# Altium schematic symbol library Devices.SCHLIB: 299 symbols
Pins are listed as number, name and electrical type; pins without a type are passive.

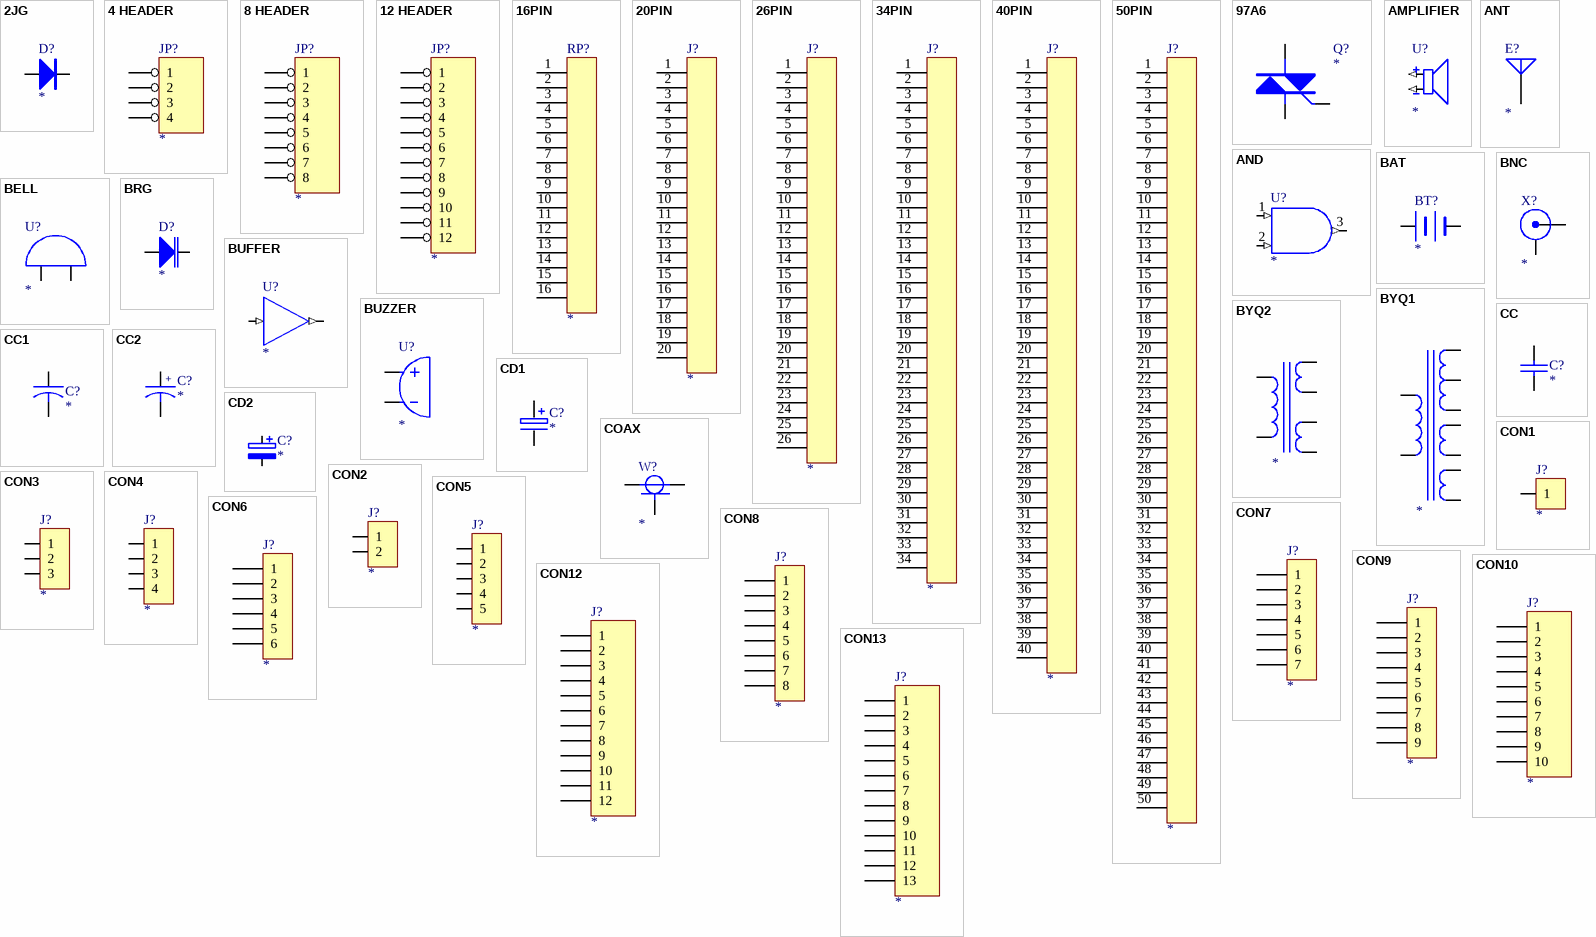
[diagram p0: symbols 2JG to CON13]

## 2JG
designator D?
Diode
footprint V3
footprint D3528
footprint V2
pins: 1 A, 2 K

## 4 HEADER
designator JP?
4 Pin Header
pins: 1, 2, 3, 4

## 8 HEADER
designator JP?
8 Pin Header
pins: 1, 2, 3, 4, 5, 6, 7, 8

## 12 HEADER
designator JP?
12 Pin Header
pins: 1, 2, 3, 4, 5, 6, 7, 8, 9, 10, 11, 12

## 16PIN
designator RP?
footprint IDC16
pins: 1, 2, 3, 4, 5, 6, 7, 8, 9, 10, 11, 12, 13, 14, 15, 16

## 20PIN
designator J?
footprint IDC20
pins: 1, 2, 3, 4, 5, 6, 7, 8, 9, 10, 11, 12, 13, 14, 15, 16, 17, 18, 19, 20

## 26PIN
designator J?
footprint IDC26
pins: 1, 2, 3, 4, 5, 6, 7, 8, 9, 10, 11, 12, 13, 14, 15, 16, 17, 18, 19, 20, 21, 22, 23, 24, 25, 26

## 34PIN
designator J?
footprint IDC34
pins: 1, 2, 3, 4, 5, 6, 7, 8, 9, 10, 11, 12, 13, 14, 15, 16, 17, 18, 19, 20, 21, 22, 23, 24, 25, 26, 27, 28, 29, 30, 31, 32, 33, 34

## 40PIN
designator J?
footprint IDC40
pins: 1, 2, 3, 4, 5, 6, 7, 8, 9, 10, 11, 12, 13, 14, 15, 16, 17, 18, 19, 20, 21, 22, 23, 24, 25, 26, 27, 28, 29, 30, 31, 32, 33, 34, 35, 36, 37, 38, 39, 40

## 50PIN
designator J?
footprint IDC50
pins: 1, 2, 3, 4, 5, 6, 7, 8, 9, 10, 11, 12, 13, 14, 15, 16, 17, 18, 19, 20, 21, 22, 23, 24, 25, 26, 27, 28, 29, 30, 31, 32, 33, 34, 35, 36, 37, 38, 39, 40, 41, 42, 43, 44, 45, 46, 47, 48, 49, 50

## 97A6
designator Q?
footprint BG3
footprint BD235
pins: 1 T, 2 G, 3 T

## AMPLIFIER
designator U?
pins: 1 IN+ (in), 2 IN- (in)

## AND
designator U?
AND Gate
pins: 1 A (in), 2 B (in), 3 Y (out)

## ANT
designator E?
Generic Antenna
pins: 1 A

## BAT
designator BT?
Battery
pins: 1 +, 2 -

## BELL
designator U?
Bell
pins: 1 A, 2 B

## BNC
designator X?
BNC Connector
footprint AV1
footprint AV2
footprint AV3
footprint AV4
pins: 1 X, 2 Y

## BRG
designator D?
Varactor Diode
footprint V3
pins: 1 A, 2 K

## BUFFER
designator U?
Buffer
pins: 1 A (in), 2 Y (out)

## BUZZER
designator U?
Buzzer
pins: 1 A, 2 B

## BYQ1
designator ?
pins: 1, 2, 3, 3, 3, 4, 5, 5, 5

## BYQ2
designator ?
pins: 1, 3, 3, 4, 5, 5

## CC
designator C?
Capacitor
footprint C0603
footprint C0805
footprint C1
footprint C2
pins: 1, 2

## CC1
designator C?
Capacitor
footprint C2
footprint C1
footprint C3
footprint C4
pins: 1, 2

## CC2
designator C?
Capacitor
footprint CD1
footprint CD2
footprint CD3
footprint CD2-4
pins: 1, 2
text: +

## CD1
designator C?
Electrolytic Capacitor; Text Field1: 4.7uF:4V-A;6.3V-A;10V-A;16V-BA;20V-BA;25V-CB;35V-DC;50V-D;; Text Field2: 10uF:4V-AB;6.3V-BA;10V-BA;16V-CBA;20V-CB;25V-DC;35V-D;; Text Field3: 22uF:4V-BA;6.3V-CBA;10V-CB;16V-DBC;20V-DC;25V-D;35V-D;; Text Field4: 33uF:4V-CAB;6.3V-CBA;10V-DBC;16V-DCB;20V-DC;25V-DE;; Text Field5: 47uF:4V-CBA;6.3V-DBC;10V-DBC;16V-DC;20V-DE;; Text Field6: 68uF:4V-DBC;6.3V-DCB;10V-DCB;16V-D;20V-DE;; Text Field7: 100uF:4V-DCB;6.3V-EDBC;10V-DC;16V-DE;20V-E;; Text Field8: 220uF:4V-EDC;6.3V-ED;10V-ED;
footprint CD1
footprint CD2
footprint CD2-4
footprint CD3
pins: 1, 2

## CD2
designator C?
Electrolytic Capacitor
footprint CD1
footprint CD2
footprint CD2-4
footprint CD3
pins: 1, 2

## COAX
designator W?
Coaxial
pins: 1 CENTER 1, 2 CENTER 2, 3 SHIELD

## CON1
designator J?
Connector
footprint SIP1
pins: 1

## CON2
designator J?
Connector
footprint SIP2
pins: 1, 2

## CON3
designator J?
Connector
footprint SIP3
pins: 1, 2, 3

## CON4
designator J?
Connector
footprint SIP4
pins: 1, 2, 3, 4

## CON5
designator J?
Connector
footprint SIP5
pins: 1, 2, 3, 4, 5

## CON6
designator J?
Connector
footprint SIP6
pins: 1, 2, 3, 4, 5, 6

## CON7
designator J?
Connector
footprint SIP7
pins: 1, 2, 3, 4, 5, 6, 7

## CON8
designator J?
Connector
footprint SIP8
pins: 1, 2, 3, 4, 5, 6, 7, 8

## CON9
designator J?
Connector
footprint SIP9
pins: 1, 2, 3, 4, 5, 6, 7, 8, 9

## CON10
designator J?
Connector
footprint SIP10
pins: 1, 2, 3, 4, 5, 6, 7, 8, 9, 10

## CON12
designator J?
Connector
pins: 1, 2, 3, 4, 5, 6, 7, 8, 9, 10, 11, 12

## CON13
designator J?
Connector
pins: 1, 2, 3, 4, 5, 6, 7, 8, 9, 10, 11, 12, 13

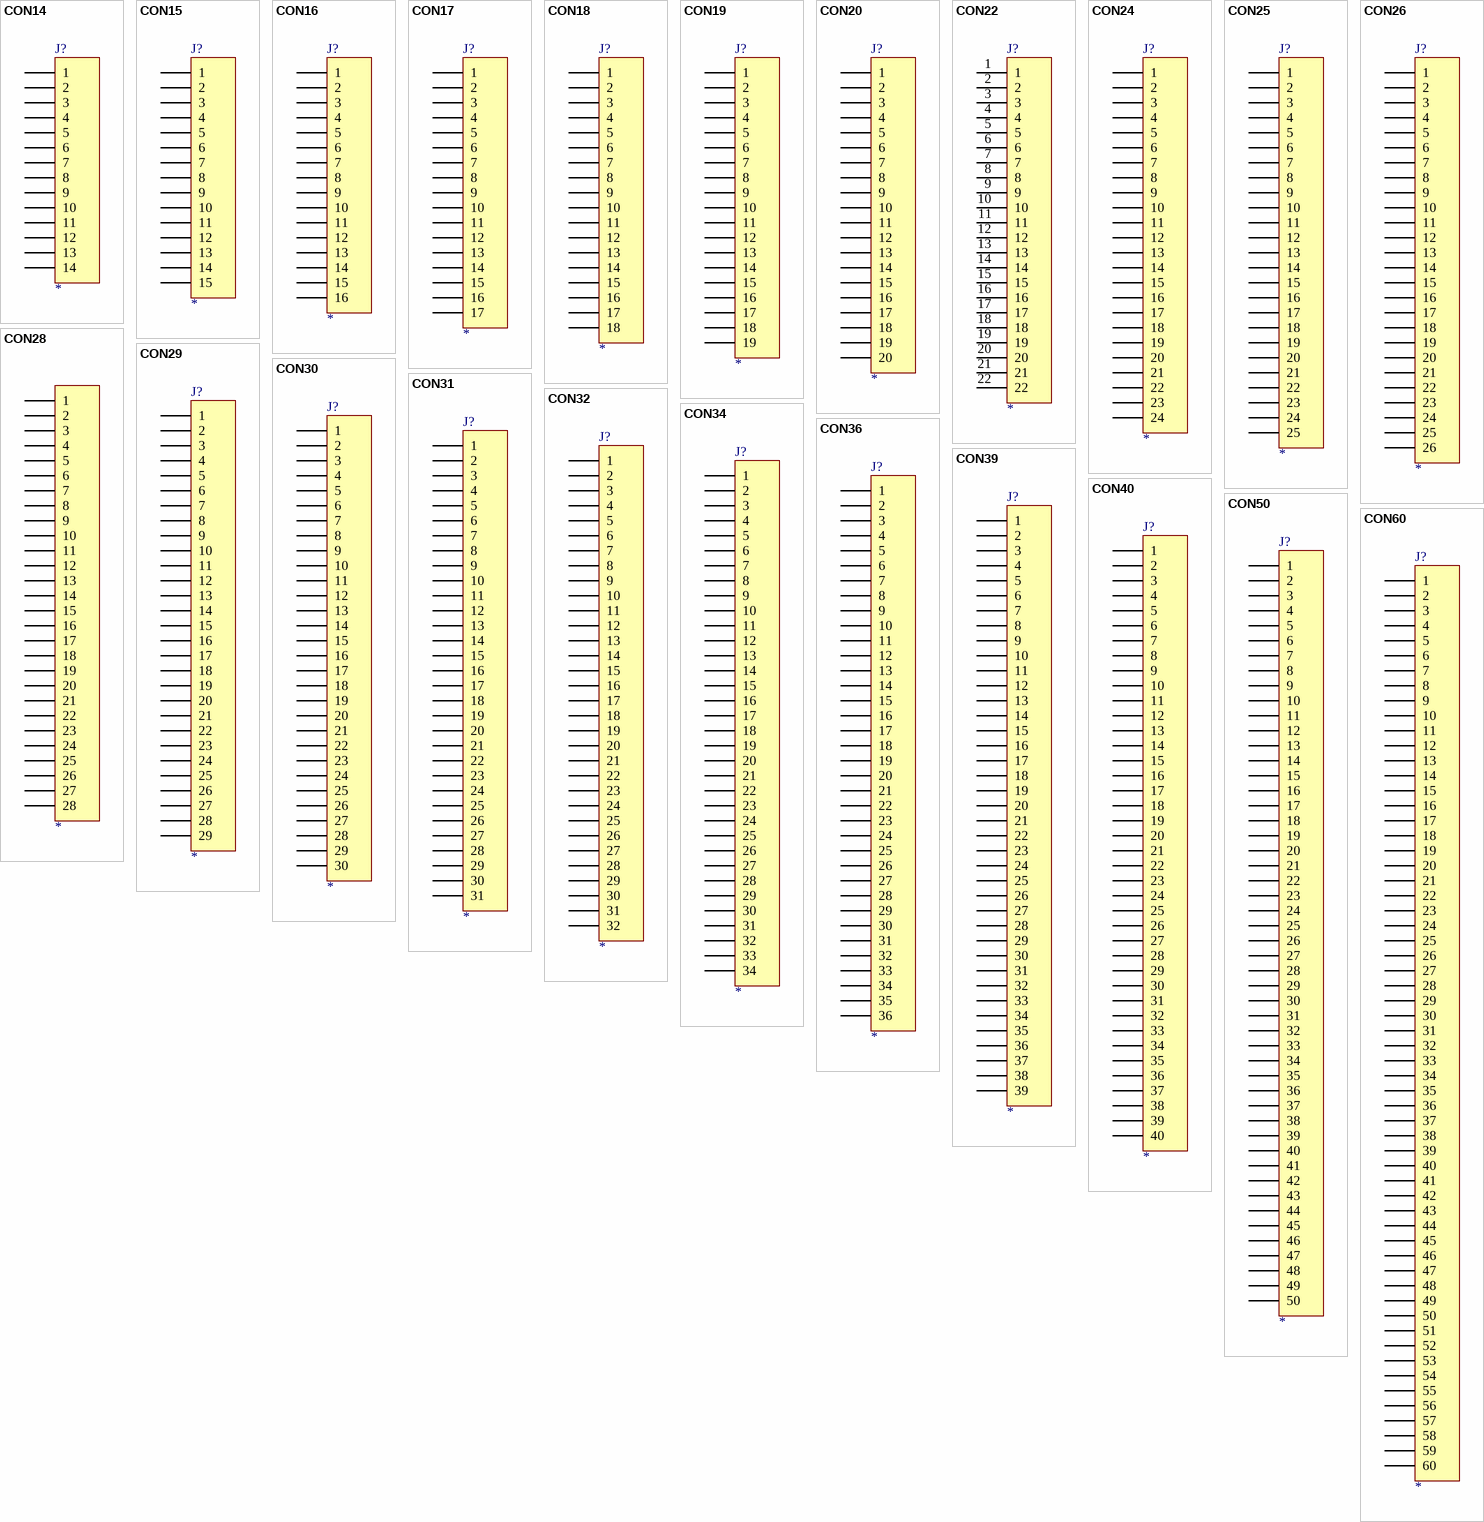
[diagram p1: symbols CON14 to CON60]

## CON14
designator J?
Connector
pins: 1, 2, 3, 4, 5, 6, 7, 8, 9, 10, 11, 12, 13, 14

## CON15
designator J?
Connector
pins: 1, 2, 3, 4, 5, 6, 7, 8, 9, 10, 11, 12, 13, 14, 15

## CON16
designator J?
Connector
pins: 1, 2, 3, 4, 5, 6, 7, 8, 9, 10, 11, 12, 13, 14, 15, 16

## CON17
designator J?
Connector
pins: 1, 2, 3, 4, 5, 6, 7, 8, 9, 10, 11, 12, 13, 14, 15, 16, 17

## CON18
designator J?
Connector
pins: 1, 2, 3, 4, 5, 6, 7, 8, 9, 10, 11, 12, 13, 14, 15, 16, 17, 18

## CON19
designator J?
Connector
pins: 1, 2, 3, 4, 5, 6, 7, 8, 9, 10, 11, 12, 13, 14, 15, 16, 17, 18, 19

## CON20
designator J?
Connector
pins: 1, 2, 3, 4, 5, 6, 7, 8, 9, 10, 11, 12, 13, 14, 15, 16, 17, 18, 19, 20

## CON22
designator J?
pins: 1, 2, 3, 4, 5, 6, 7, 8, 9, 10, 11, 12, 13, 14, 15, 16, 17, 18, 19, 20, 21, 22

## CON24
designator J?
Connector
pins: 1, 2, 3, 4, 5, 6, 7, 8, 9, 10, 11, 12, 13, 14, 15, 16, 17, 18, 19, 20, 21, 22, 23, 24

## CON25
designator J?
Connector
pins: 1, 2, 3, 4, 5, 6, 7, 8, 9, 10, 11, 12, 13, 14, 15, 16, 17, 18, 19, 20, 21, 22, 23, 24, 25

## CON26
designator J?
Connector
pins: 1, 2, 3, 4, 5, 6, 7, 8, 9, 10, 11, 12, 13, 14, 15, 16, 17, 18, 19, 20, 21, 22, 23, 24, 25, 26

## CON28
designator ?
pins: 1, 2, 3, 4, 5, 6, 7, 8, 9, 10, 11, 12, 13, 14, 15, 16, 17, 18, 19, 20, 21, 22, 23, 24, 25, 26, 27, 28

## CON29
designator J?
Connector
pins: 1, 2, 3, 4, 5, 6, 7, 8, 9, 10, 11, 12, 13, 14, 15, 16, 17, 18, 19, 20, 21, 22, 23, 24, 25, 26, 27, 28, 29

## CON30
designator J?
Connector
pins: 1, 2, 3, 4, 5, 6, 7, 8, 9, 10, 11, 12, 13, 14, 15, 16, 17, 18, 19, 20, 21, 22, 23, 24, 25, 26, 27, 28, 29, 30

## CON31
designator J?
Connector
pins: 1, 2, 3, 4, 5, 6, 7, 8, 9, 10, 11, 12, 13, 14, 15, 16, 17, 18, 19, 20, 21, 22, 23, 24, 25, 26, 27, 28, 29, 30, 31

## CON32
designator J?
Connector
pins: 1, 2, 3, 4, 5, 6, 7, 8, 9, 10, 11, 12, 13, 14, 15, 16, 17, 18, 19, 20, 21, 22, 23, 24, 25, 26, 27, 28, 29, 30, 31, 32

## CON34
designator J?
Connector
pins: 1, 2, 3, 4, 5, 6, 7, 8, 9, 10, 11, 12, 13, 14, 15, 16, 17, 18, 19, 20, 21, 22, 23, 24, 25, 26, 27, 28, 29, 30, 31, 32, 33, 34

## CON36
designator J?
Connector
pins: 1, 2, 3, 4, 5, 6, 7, 8, 9, 10, 11, 12, 13, 14, 15, 16, 17, 18, 19, 20, 21, 22, 23, 24, 25, 26, 27, 28, 29, 30, 31, 32, 33, 34, 35, 36

## CON39
designator J?
Connector
pins: 1, 2, 3, 4, 5, 6, 7, 8, 9, 10, 11, 12, 13, 14, 15, 16, 17, 18, 19, 20, 21, 22, 23, 24, 25, 26, 27, 28, 29, 30, 31, 32, 33, 34, 35, 36, 37, 38, 39

## CON40
designator J?
Connector
pins: 1, 2, 3, 4, 5, 6, 7, 8, 9, 10, 11, 12, 13, 14, 15, 16, 17, 18, 19, 20, 21, 22, 23, 24, 25, 26, 27, 28, 29, 30, 31, 32, 33, 34, 35, 36, 37, 38, 39, 40

## CON50
designator J?
Connector
pins: 1, 2, 3, 4, 5, 6, 7, 8, 9, 10, 11, 12, 13, 14, 15, 16, 17, 18, 19, 20, 21, 22, 23, 24, 25, 26, 27, 28, 29, 30, 31, 32, 33, 34, 35, 36, 37, 38, 39, 40, 41, 42, 43, 44, 45, 46, 47, 48, 49, 50

## CON60
designator J?
Connector
pins: 1, 2, 3, 4, 5, 6, 7, 8, 9, 10, 11, 12, 13, 14, 15, 16, 17, 18, 19, 20, 21, 22, 23, 24, 25, 26, 27, 28, 29, 30, 31, 32, 33, 34, 35, 36, 37, 38, 39, 40, 41, 42, 43, 44, 45, 46, 47, 48, 49, 50, 51, 52, 53, 54, 55, 56, 57, 58, 59, 60

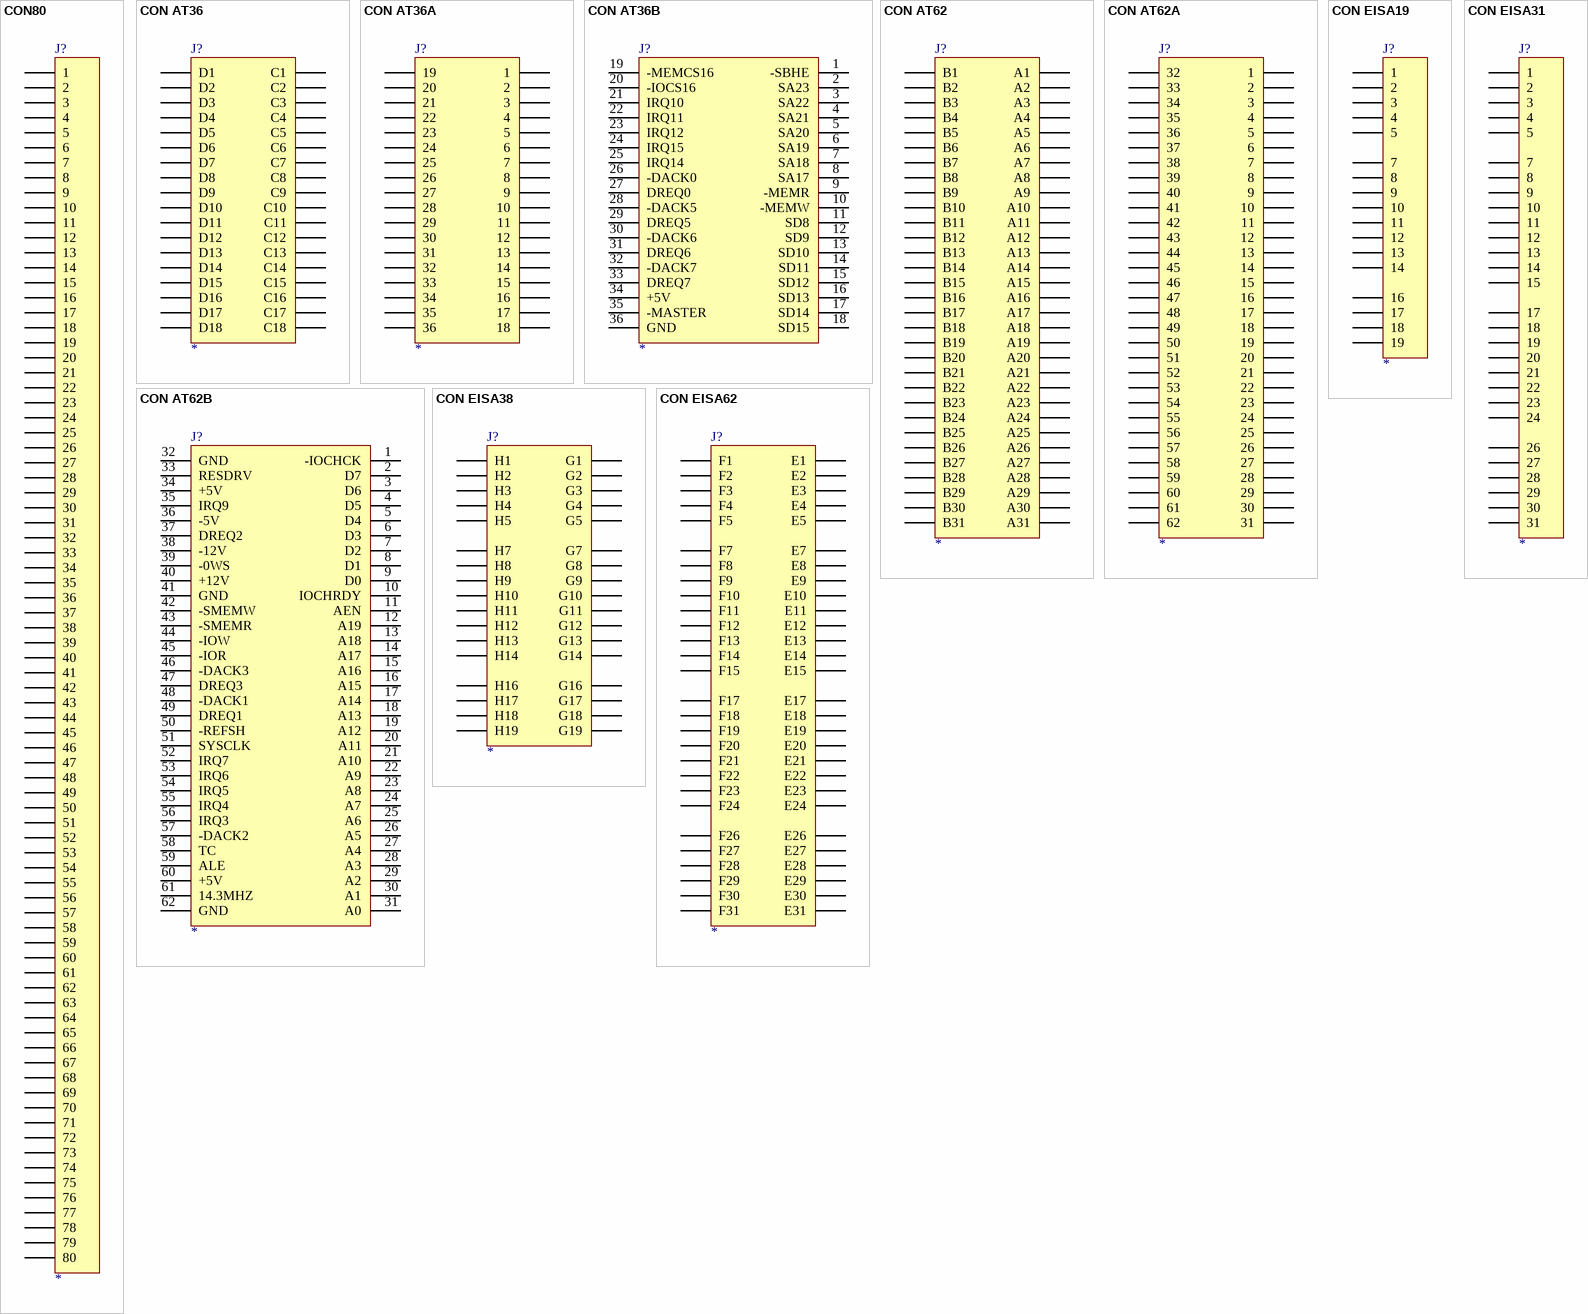
[diagram p2: symbols CON80 to CON EISA62]

## CON80
designator J?
Connector
pins: 1, 2, 3, 4, 5, 6, 7, 8, 9, 10, 11, 12, 13, 14, 15, 16, 17, 18, 19, 20, 21, 22, 23, 24, 25, 26, 27, 28, 29, 30, 31, 32, 33, 34, 35, 36, 37, 38, 39, 40, 41, 42, 43, 44, 45, 46, 47, 48, 49, 50, 51, 52, 53, 54, 55, 56, 57, 58, 59, 60, 61, 62, 63, 64, 65, 66, 67, 68, 69, 70, 71, 72, 73, 74, 75, 76, 77, 78, 79, 80

## CON AT36
designator J?
36 Pin AT Connector
pins: C1, C2, C3, C4, C5, C6, C7, C8, C9, C10, C11, C12, C13, C14, C15, C16, C17, C18, D1, D2, D3, D4, D5, D6, D7, D8, D9, D10, D11, D12, D13, D14, D15, D16, D17, D18

## CON AT36A
designator J?
36 Pin AT Connector
pins: 1, 2, 3, 4, 5, 6, 7, 8, 9, 10, 11, 12, 13, 14, 15, 16, 17, 18, 19, 20, 21, 22, 23, 24, 25, 26, 27, 28, 29, 30, 31, 32, 33, 34, 35, 36

## CON AT36B
designator J?
36 Pin AT Connector
pins: 1 -SBHE, 2 SA23, 3 SA22, 4 SA21, 5 SA20, 6 SA19, 7 SA18, 8 SA17, 9 -MEMR, 10 -MEMW, 11 SD8, 12 SD9, 13 SD10, 14 SD11, 15 SD12, 16 SD13, 17 SD14, 18 SD15, 19 -MEMCS16, 20 -IOCS16, 21 IRQ10, 22 IRQ11, 23 IRQ12, 24 IRQ15, 25 IRQ14, 26 -DACK0, 27 DREQ0, 28 -DACK5, 29 DREQ5, 30 -DACK6, 31 DREQ6, 32 -DACK7, 33 DREQ7, 34 +5V, 35 -MASTER, 36 GND

## CON AT62
designator J?
62 Pin AT Connector
pins: A1, A2, A3, A4, A5, A6, A7, A8, A9, A10, A11, A12, A13, A14, A15, A16, A17, A18, A19, A20, A21, A22, A23, A24, A25, A26, A27, A28, A29, A30, A31, B1, B2, B3, B4, B5, B6, B7, B8, B9, B10, B11, B12, B13, B14, B15, B16, B17, B18, B19, B20, B21, B22, B23, B24, B25, B26, B27, B28, B29, B30, B31

## CON AT62A
designator J?
62 Pin AT Connector
pins: 1, 2, 3, 4, 5, 6, 7, 8, 9, 10, 11, 12, 13, 14, 15, 16, 17, 18, 19, 20, 21, 22, 23, 24, 25, 26, 27, 28, 29, 30, 31, 32, 33, 34, 35, 36, 37, 38, 39, 40, 41, 42, 43, 44, 45, 46, 47, 48, 49, 50, 51, 52, 53, 54, 55, 56, 57, 58, 59, 60, 61, 62

## CON AT62B
designator J?
62 Pin AT Connector
pins: 1 -IOCHCK, 2 D7, 3 D6, 4 D5, 5 D4, 6 D3, 7 D2, 8 D1, 9 D0, 10 IOCHRDY, 11 AEN, 12 A19, 13 A18, 14 A17, 15 A16, 16 A15, 17 A14, 18 A13, 19 A12, 20 A11, 21 A10, 22 A9, 23 A8, 24 A7, 25 A6, 26 A5, 27 A4, 28 A3, 29 A2, 30 A1, 31 A0, 32 GND, 33 RESDRV, 34 +5V, 35 IRQ9, 36 -5V, 37 DREQ2, 38 -12V, 39 -0WS, 40 +12V, 41 GND, 42 -SMEMW, 43 -SMEMR, 44 -IOW, 45 -IOR, 46 -DACK3, 47 DREQ3, 48 -DACK1, 49 DREQ1, 50 -REFSH, 51 SYSCLK, 52 IRQ7, 53 IRQ6, 54 IRQ5, 55 IRQ4, 56 IRQ3, 57 -DACK2, 58 TC, 59 ALE, 60 +5V, 61 14.3MHZ, 62 GND

## CON EISA19
designator J?
19 Pin EISA Connector
pins: 1, 2, 3, 4, 5, 7, 8, 9, 10, 11, 12, 13, 14, 16, 17, 18, 19

## CON EISA31
designator J?
31 Pin EISA Connector
pins: 1, 2, 3, 4, 5, 7, 8, 9, 10, 11, 12, 13, 14, 15, 17, 18, 19, 20, 21, 22, 23, 24, 26, 27, 28, 29, 30, 31

## CON EISA38
designator J?
38 Pin EISA Connector; Text Field6: Pins 6, 15, 25 & 34 are not connected;
pins: 1 H1, 2 H2, 3 H3, 4 H4, 5 H5, 7 H7, 8 H8, 9 H9, 10 H10, 11 H11, 12 H12, 13 H13, 14 H14, 16 H16, 17 H17, 18 H18, 19 H19, 20 G1, 21 G2, 22 G3, 23 G4, 24 G5, 26 G7, 27 G8, 28 G9, 29 G10, 30 G11, 31 G12, 32 G13, 33 G14, 35 G16, 36 G17, 37 G18, 38 G19

## CON EISA62
designator J?
62 Pin EISA Connector
pins: E1, E2, E3, E4, E5, E7, E8, E9, E10, E11, E12, E13, E14, E15, E17, E18, E19, E20, E21, E22, E23, E24, E26, E27, E28, E29, E30, E31, F1, F2, F3, F4, F5, F7, F8, F9, F10, F11, F12, F13, F14, F15, F17, F18, F19, F20, F21, F22, F23, F24, F26, F27, F28, F29, F30, F31

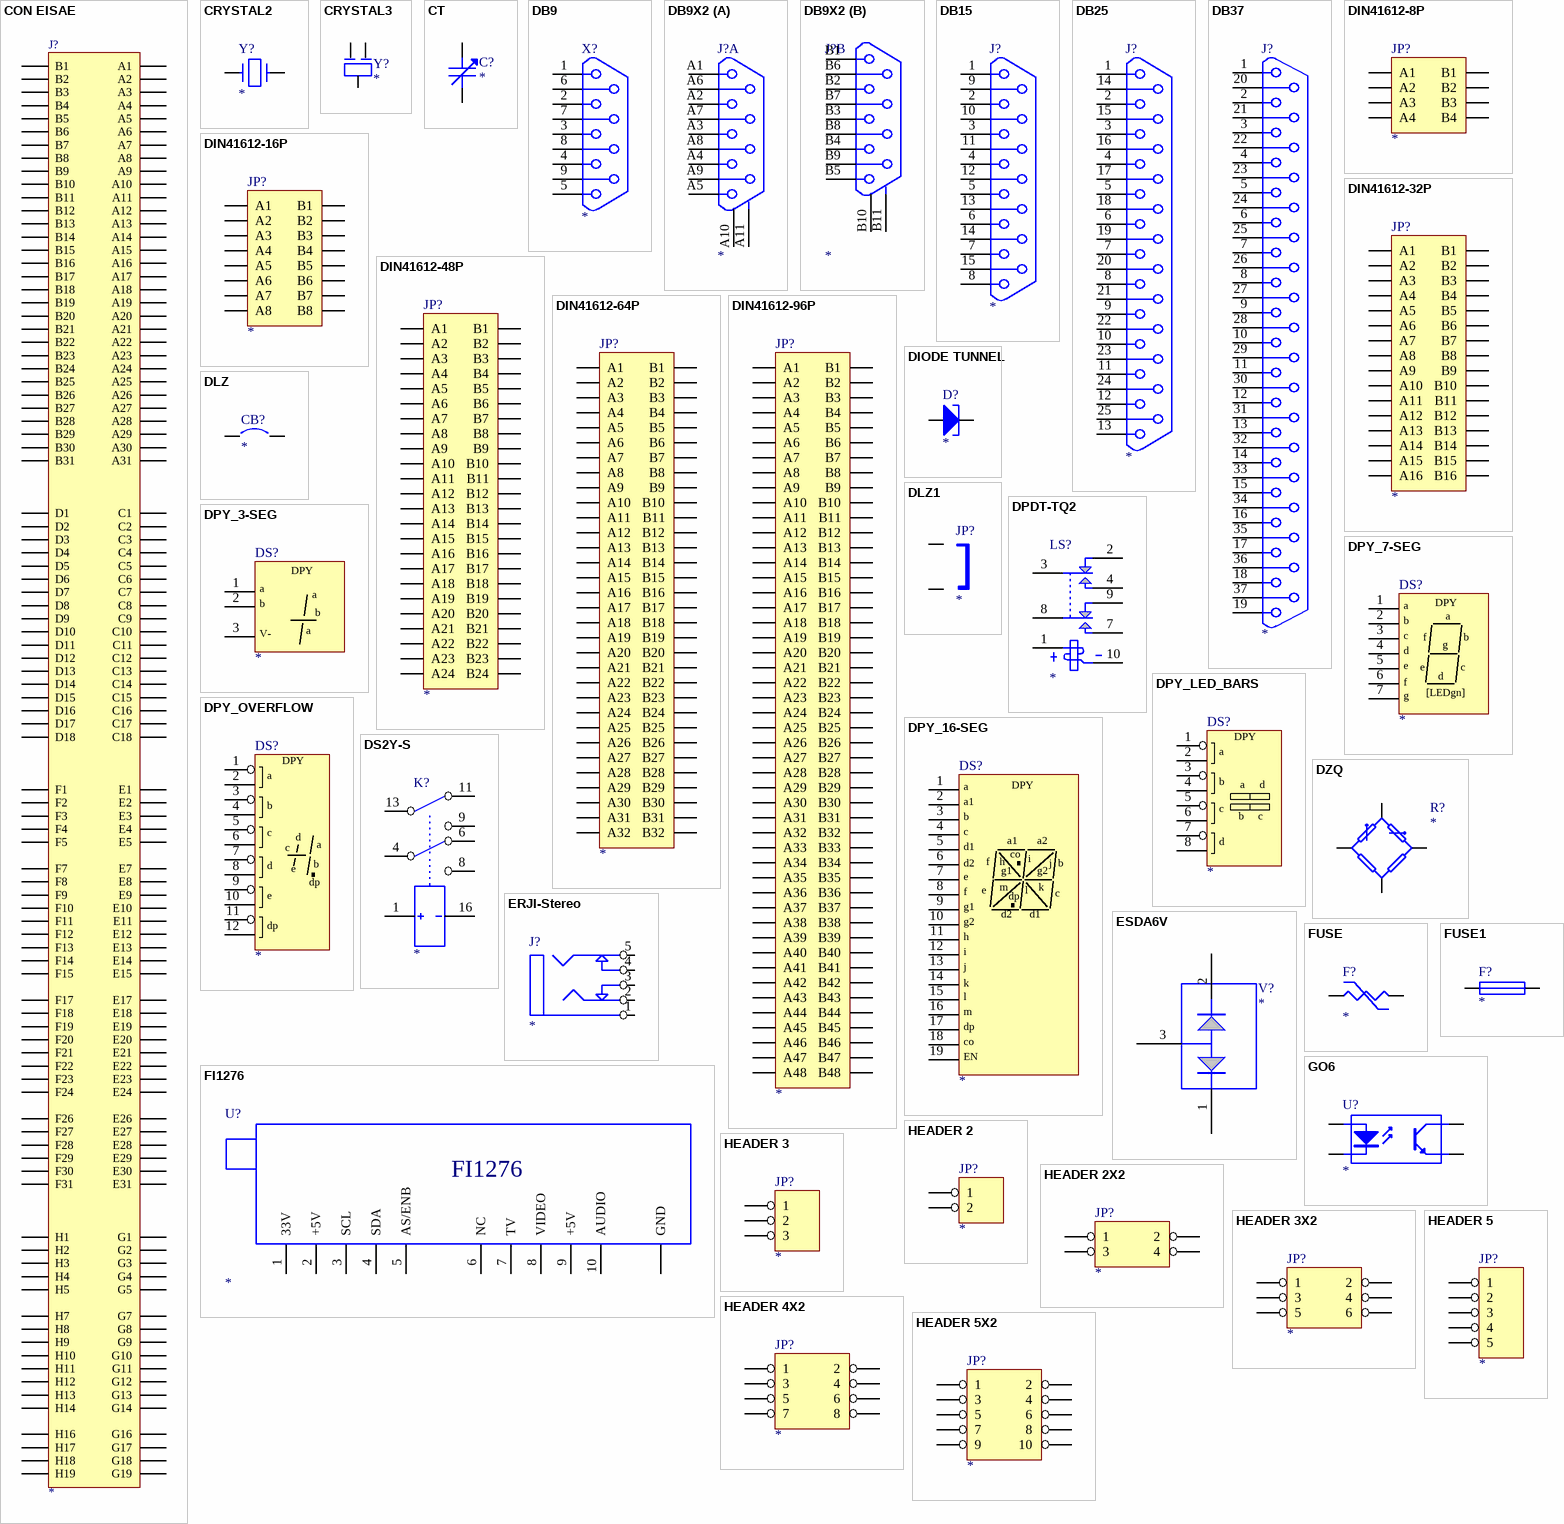
[diagram p3: symbols CON EISAE to HEADER 5X2]

## CON EISAE
designator J?
168 Pin EISA Connector
pins: A1, A2, A3, A4, A5, A6, A7, A8, A9, A10, A11, A12, A13, A14, A15, A16, A17, A18, A19, A20, A21, A22, A23, A24, A25, A26, A27, A28, A29, A30, A31, B1, B2, B3, B4, B5, B6, B7, B8, B9, B10, B11, B12, B13, B14, B15, B16, B17, B18, B19, B20, B21, B22, B23, B24, B25, B26, B27, B28, B29, B30, B31, C1, C2, C3, C4, C5, C6, C7, C8, C9, C10, C11, C12, C13, C14, C15, C16, C17, C18, D1, D2, D3, D4, D5, D6, D7, D8, D9, D10, D11, D12, D13, D14, D15, D16, D17, D18, E1, E2, E3, E4, E5, E7, E8, E9, E10, E11, E12, E13, E14, E15, E17, E18, E19, E20, E21, E22, E23, E24, E26, E27, E28, E29, E30, E31, F1, F2, F3, F4, F5, F7, F8, F9, F10, F11, F12, F13, F14, F15, F17, F18, F19, F20, F21, F22, F23, F24, F26, F27, F28, F29, F30, F31, G1, G2, G3, G4, G5, G7, G8, G9, G10, G11, G12, G13, G14, G16, G17, G18, G19, H1, H2, H3, H4, H5, H7, H8, H9, H10, H11, H12, H13, H14, H16, H17, H18, H19

## CRYSTAL2
designator Y?
Crystal
footprint M2
pins: 1, 2

## CRYSTAL3
designator Y?
footprint M3
pins: 1, 2, 3

## CT
designator C?
Variable Capacitor
footprint C2
footprint C1
footprint C3
pins: 1, 2

## DB9
designator X?
footprint DB9
footprint DB9P
pins: 1, 2, 3, 4, 5, 6, 7, 8, 9

## DB9X2
designator J?
Text Field1: 52; Text Field2: 112
footprint DB9P/F-2
part A pins: A1, A2, A3, A4, A5, A6, A7, A8, A9, A10 (power), A11 (power)
part B pins: B1, B2, B3, B4, B5, B6, B7, B8, B9, B10 (power), B11 (power)

## DB15
designator J?
footprint DB15-3/M
footprint DB15-3/T
pins: 1, 2, 3, 4, 5, 6, 7, 8, 9, 10, 11, 12, 13, 14, 15

## DB25
designator J?
footprint DB-25/M
pins: 1, 2, 3, 4, 5, 6, 7, 8, 9, 10, 11, 12, 13, 14, 15, 16, 17, 18, 19, 20, 21, 22, 23, 24, 25

## DB37
designator J?
footprint DB-37/M
pins: 1, 2, 3, 4, 5, 6, 7, 8, 9, 10, 11, 12, 13, 14, 15, 16, 17, 18, 19, 20, 21, 22, 23, 24, 25, 26, 27, 28, 29, 30, 31, 32, 33, 34, 35, 36, 37

## DIN41612-8P
designator JP?
footprint DIN41612-8P
pins: A1, A2, A3, A4, B1, B2, B3, B4

## DIN41612-16P
designator JP?
footprint DIN41612-16P
pins: A1, A2, A3, A4, A5, A6, A7, A8, B1, B2, B3, B4, B5, B6, B7, B8

## DIN41612-32P
designator JP?
footprint DIN41612-32P
pins: A1, A2, A3, A4, A5, A6, A7, A8, A9, A10, A11, A12, A13, A14, A15, A16, B1, B2, B3, B4, B5, B6, B7, B8, B9, B10, B11, B12, B13, B14, B15, B16

## DIN41612-48P
designator JP?
footprint DIN41612-48P
pins: A1, A2, A3, A4, A5, A6, A7, A8, A9, A10, A11, A12, A13, A14, A15, A16, A17, A18, A19, A20, A21, A22, A23, A24, B1, B2, B3, B4, B5, B6, B7, B8, B9, B10, B11, B12, B13, B14, B15, B16, B17, B18, B19, B20, B21, B22, B23, B24

## DIN41612-64P
designator JP?
footprint DIN41612-64P
pins: A1, A2, A3, A4, A5, A6, A7, A8, A9, A10, A11, A12, A13, A14, A15, A16, A17, A18, A19, A20, A21, A22, A23, A24, A25, A26, A27, A28, A29, A30, A31, A32, B1, B2, B3, B4, B5, B6, B7, B8, B9, B10, B11, B12, B13, B14, B15, B16, B17, B18, B19, B20, B21, B22, B23, B24, B25, B26, B27, B28, B29, B30, B31, B32

## DIN41612-96P
designator JP?
footprint DIN41612-96P
pins: A1, A2, A3, A4, A5, A6, A7, A8, A9, A10, A11, A12, A13, A14, A15, A16, A17, A18, A19, A20, A21, A22, A23, A24, A25, A26, A27, A28, A29, A30, A31, A32, A33, A34, A35, A36, A37, A38, A39, A40, A41, A42, A43, A44, A45, A46, A47, A48, B1, B2, B3, B4, B5, B6, B7, B8, B9, B10, B11, B12, B13, B14, B15, B16, B17, B18, B19, B20, B21, B22, B23, B24, B25, B26, B27, B28, B29, B30, B31, B32, B33, B34, B35, B36, B37, B38, B39, B40, B41, B42, B43, B44, B45, B46, B47, B48

## DIODE TUNNEL
designator D?
Diode Tunnel
footprint V3
pins: 1 A, 2 K

## DLZ
designator CB?
Circuit Breaker
pins: 1, 2

## DLZ1
designator JP?
Jumper
footprint RAD0.2
pins: 1, 2

## DPDT-TQ2
designator LS?
NAIS RELAY; Text Field1: 20; Text Field2: 90
footprint TQ2
pins: 1 COIL+, 2 NC1, 3 COMMON1, 4 NO1, 7 NO2, 8 COMMON2, 9 NC2, 10 -VE

## DPY_3-SEG
designator DS?
Three-Segment Display
pins: 1 x, 2 y, 3 z
text: DPY; a; b; V-

## DPY_7-SEG
designator DS?
Seven-Segment Display
pins: 1 a, 2 b, 3 c, 4 d, 5 e, 6 f, 7 g
text: DPY; [LEDgn]

## DPY_16-SEG
designator DS?
Sixteen-Segment (Alphanumeric) Display
pins: 1 a1, 2 a1, 3 b, 4 c, 5 d1, 6 d2, 7 e, 8 f, 9 g1, 10 g2, 11 h, 12 i, 13 j, 14 k, 15 l, 16 m, 17 dp, 18 co, 19 EN
text: DPY; a; a2

## DPY_LED_BARS
designator DS?
LED Light Bars
pins: 1 ~{a}, 2 a, 3 ~{b}, 4 b, 5 ~{c}, 6 c, 7 ~{d}, 8 d
text: DPY

## DPY_OVERFLOW
designator DS?
Overflow, Right Hand Decimal
pins: 1 ~{a}, 2 a, 3 ~{b}, 4 b, 5 ~{c}, 6 c, 7 ~{d}, 8 d, 9 ~{e}, 10 e, 11 d~{p}, 12 dp
text: DPY

## DS2Y-S
designator K?
Text Field1: 22; Text Field2: 102
footprint DS2Y-S
pins: 1 +, 4 COM, 6 N.C., 8 N.O., 9 N.O., 11 N.C., 13 COM, 16 -

## DZQ
designator R?
Resistor Bridge
pins: 1, 2, 3, 4

## ERJI-Stereo
designator J?
Text Field1: 62; Text Field2: 42
pins: 1 A, 2 B, 3 C, 4 D, 5 E

## ESDA6V
designator V?
Text Field1: 52; Text Field2: 72
pins: 1, 2, 3

## FI1276
designator U?
footprint GPT
footprint FI1276
pins: 1 33V, 2 +5V, 3 SCL, 4 SDA, 5 AS/ENB, 6 NC, 7 TV, 8 VIDEO, 9 +5V, 10 AUDIO, GND

## FUSE
designator F?
Text Field1: 32; Text Field2: 20
pins: 1, 2

## FUSE1
designator F?
Fuse
pins: 1, 2

## GO6
designator U?
footprint DIP6
pins: 1 A, 2 K, 4 E, 5 C

## HEADER 2
designator JP?
pins: 1, 2

## HEADER 2X2
designator JP?
pins: 1, 2, 3, 4

## HEADER 3
designator JP?
pins: 1, 2, 3

## HEADER 3X2
designator JP?
pins: 1, 2, 3, 4, 5, 6

## HEADER 4X2
designator JP?
pins: 1, 2, 3, 4, 5, 6, 7, 8

## HEADER 5
designator JP?
pins: 1, 2, 3, 4, 5

## HEADER 5X2
designator JP?
pins: 1, 2, 3, 4, 5, 6, 7, 8, 9, 10

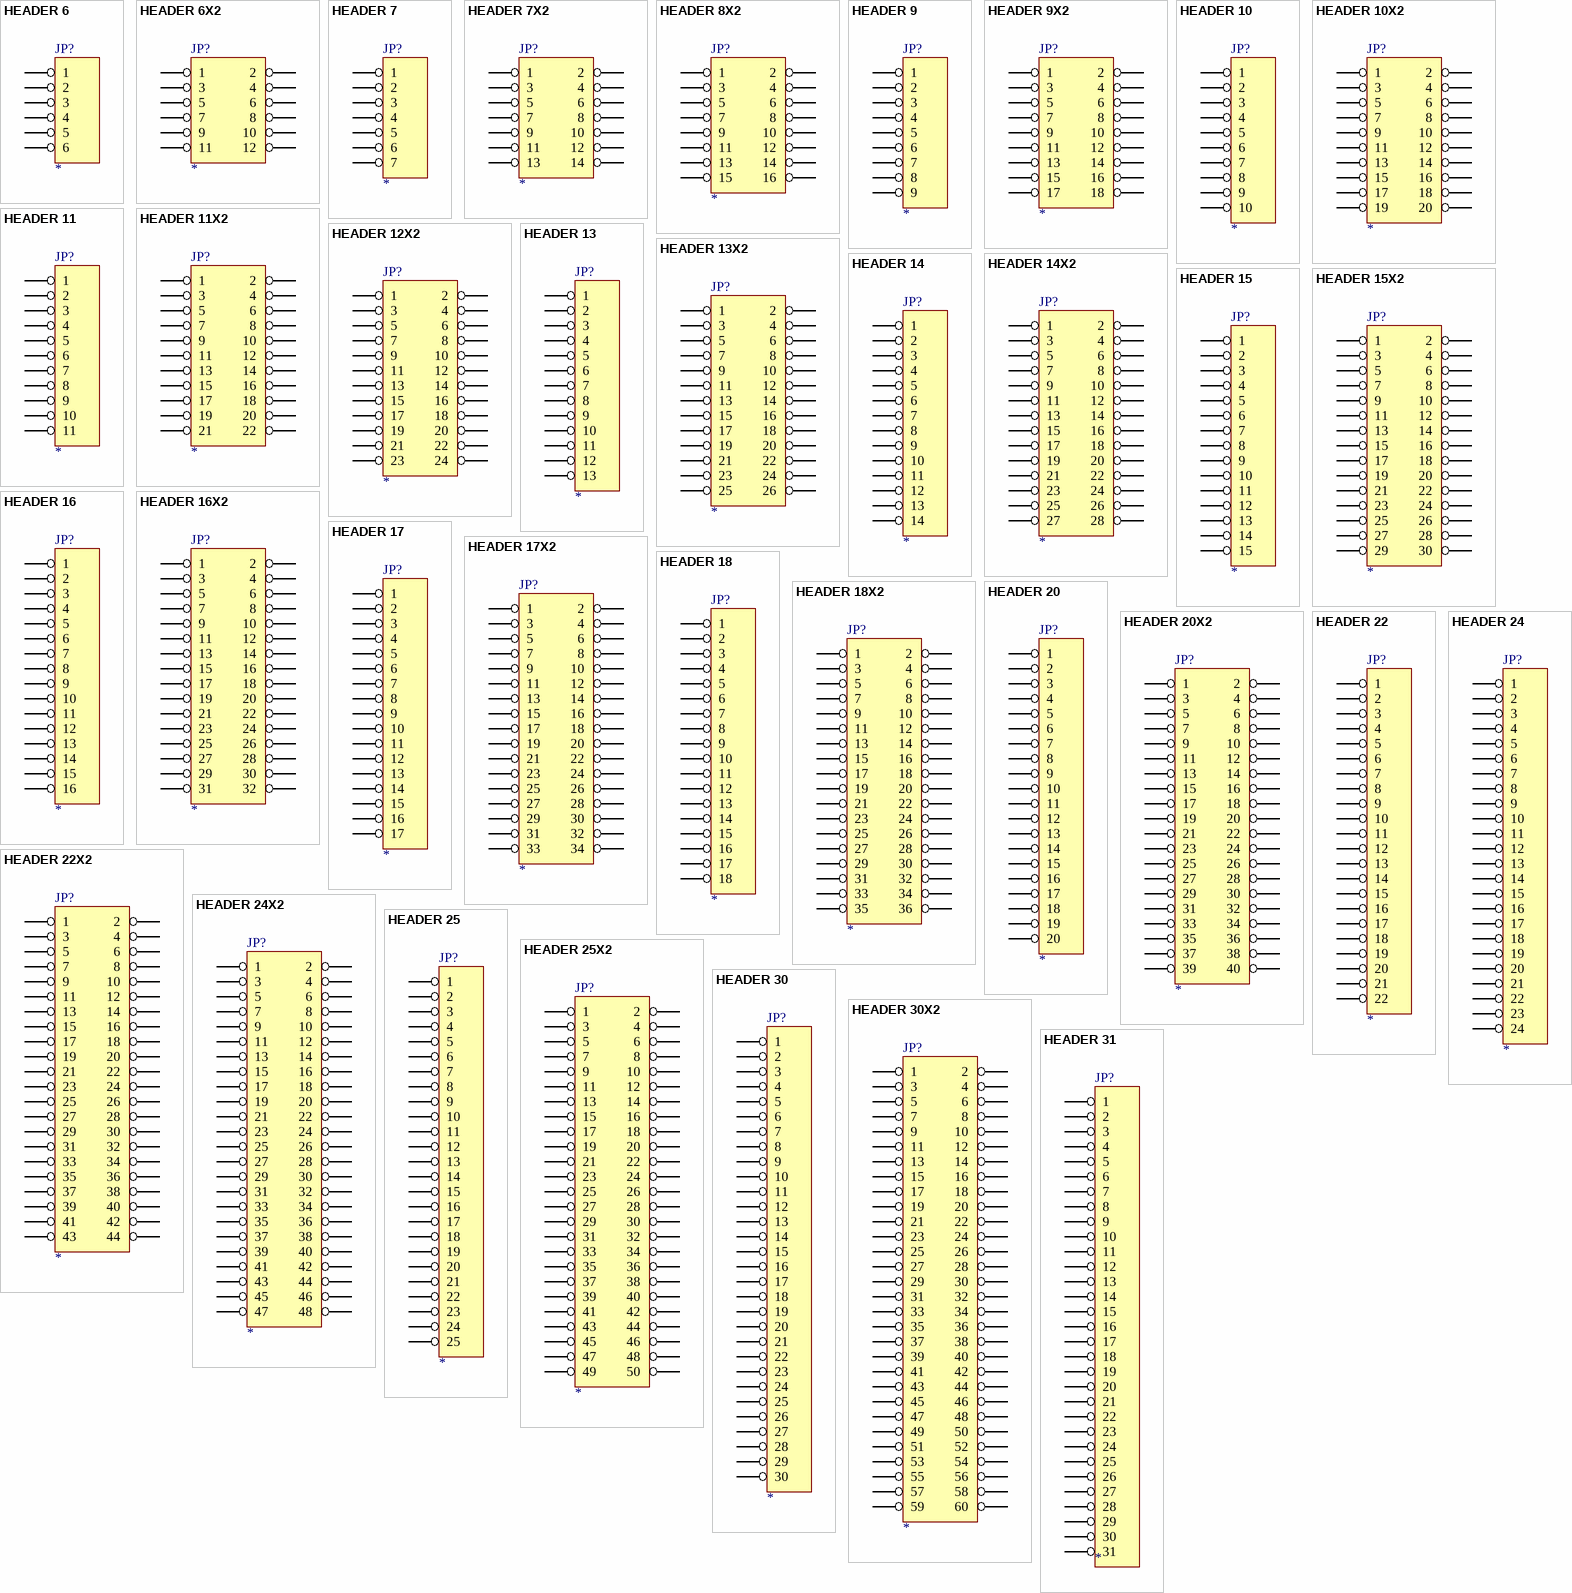
[diagram p4: symbols HEADER 6 to HEADER 31]

## HEADER 6
designator JP?
pins: 1, 2, 3, 4, 5, 6

## HEADER 6X2
designator JP?
pins: 1, 2, 3, 4, 5, 6, 7, 8, 9, 10, 11, 12

## HEADER 7
designator JP?
pins: 1, 2, 3, 4, 5, 6, 7

## HEADER 7X2
designator JP?
pins: 1, 2, 3, 4, 5, 6, 7, 8, 9, 10, 11, 12, 13, 14

## HEADER 8X2
designator JP?
pins: 1, 2, 3, 4, 5, 6, 7, 8, 9, 10, 11, 12, 13, 14, 15, 16

## HEADER 9
designator JP?
pins: 1, 2, 3, 4, 5, 6, 7, 8, 9

## HEADER 9X2
designator JP?
pins: 1, 2, 3, 4, 5, 6, 7, 8, 9, 10, 11, 12, 13, 14, 15, 16, 17, 18

## HEADER 10
designator JP?
pins: 1, 2, 3, 4, 5, 6, 7, 8, 9, 10

## HEADER 10X2
designator JP?
pins: 1, 2, 3, 4, 5, 6, 7, 8, 9, 10, 11, 12, 13, 14, 15, 16, 17, 18, 19, 20

## HEADER 11
designator JP?
pins: 1, 2, 3, 4, 5, 6, 7, 8, 9, 10, 11

## HEADER 11X2
designator JP?
pins: 1, 2, 3, 4, 5, 6, 7, 8, 9, 10, 11, 12, 13, 14, 15, 16, 17, 18, 19, 20, 21, 22

## HEADER 12X2
designator JP?
pins: 1, 2, 3, 4, 5, 6, 7, 8, 9, 10, 11, 12, 13, 14, 15, 16, 17, 18, 19, 20, 21, 22, 23, 24

## HEADER 13
designator JP?
pins: 1, 2, 3, 4, 5, 6, 7, 8, 9, 10, 11, 12, 13

## HEADER 13X2
designator JP?
pins: 1, 2, 3, 4, 5, 6, 7, 8, 9, 10, 11, 12, 13, 14, 15, 16, 17, 18, 19, 20, 21, 22, 23, 24, 25, 26

## HEADER 14
designator JP?
pins: 1, 2, 3, 4, 5, 6, 7, 8, 9, 10, 11, 12, 13, 14

## HEADER 14X2
designator JP?
pins: 1, 2, 3, 4, 5, 6, 7, 8, 9, 10, 11, 12, 13, 14, 15, 16, 17, 18, 19, 20, 21, 22, 23, 24, 25, 26, 27, 28

## HEADER 15
designator JP?
pins: 1, 2, 3, 4, 5, 6, 7, 8, 9, 10, 11, 12, 13, 14, 15

## HEADER 15X2
designator JP?
pins: 1, 2, 3, 4, 5, 6, 7, 8, 9, 10, 11, 12, 13, 14, 15, 16, 17, 18, 19, 20, 21, 22, 23, 24, 25, 26, 27, 28, 29, 30

## HEADER 16
designator JP?
pins: 1, 2, 3, 4, 5, 6, 7, 8, 9, 10, 11, 12, 13, 14, 15, 16

## HEADER 16X2
designator JP?
pins: 1, 2, 3, 4, 5, 6, 7, 8, 9, 10, 11, 12, 13, 14, 15, 16, 17, 18, 19, 20, 21, 22, 23, 24, 25, 26, 27, 28, 29, 30, 31, 32

## HEADER 17
designator JP?
pins: 1, 2, 3, 4, 5, 6, 7, 8, 9, 10, 11, 12, 13, 14, 15, 16, 17

## HEADER 17X2
designator JP?
pins: 1, 2, 3, 4, 5, 6, 7, 8, 9, 10, 11, 12, 13, 14, 15, 16, 17, 18, 19, 20, 21, 22, 23, 24, 25, 26, 27, 28, 29, 30, 31, 32, 33, 34

## HEADER 18
designator JP?
pins: 1, 2, 3, 4, 5, 6, 7, 8, 9, 10, 11, 12, 13, 14, 15, 16, 17, 18

## HEADER 18X2
designator JP?
pins: 1, 2, 3, 4, 5, 6, 7, 8, 9, 10, 11, 12, 13, 14, 15, 16, 17, 18, 19, 20, 21, 22, 23, 24, 25, 26, 27, 28, 29, 30, 31, 32, 33, 34, 35, 36

## HEADER 20
designator JP?
pins: 1, 2, 3, 4, 5, 6, 7, 8, 9, 10, 11, 12, 13, 14, 15, 16, 17, 18, 19, 20

## HEADER 20X2
designator JP?
pins: 1, 2, 3, 4, 5, 6, 7, 8, 9, 10, 11, 12, 13, 14, 15, 16, 17, 18, 19, 20, 21, 22, 23, 24, 25, 26, 27, 28, 29, 30, 31, 32, 33, 34, 35, 36, 37, 38, 39, 40

## HEADER 22
designator JP?
pins: 1, 2, 3, 4, 5, 6, 7, 8, 9, 10, 11, 12, 13, 14, 15, 16, 17, 18, 19, 20, 21, 22

## HEADER 22X2
designator JP?
pins: 1, 2, 3, 4, 5, 6, 7, 8, 9, 10, 11, 12, 13, 14, 15, 16, 17, 18, 19, 20, 21, 22, 23, 24, 25, 26, 27, 28, 29, 30, 31, 32, 33, 34, 35, 36, 37, 38, 39, 40, 41, 42, 43, 44

## HEADER 24
designator JP?
pins: 1, 2, 3, 4, 5, 6, 7, 8, 9, 10, 11, 12, 13, 14, 15, 16, 17, 18, 19, 20, 21, 22, 23, 24

## HEADER 24X2
designator JP?
pins: 1, 2, 3, 4, 5, 6, 7, 8, 9, 10, 11, 12, 13, 14, 15, 16, 17, 18, 19, 20, 21, 22, 23, 24, 25, 26, 27, 28, 29, 30, 31, 32, 33, 34, 35, 36, 37, 38, 39, 40, 41, 42, 43, 44, 45, 46, 47, 48

## HEADER 25
designator JP?
pins: 1, 2, 3, 4, 5, 6, 7, 8, 9, 10, 11, 12, 13, 14, 15, 16, 17, 18, 19, 20, 21, 22, 23, 24, 25

## HEADER 25X2
designator JP?
pins: 1, 2, 3, 4, 5, 6, 7, 8, 9, 10, 11, 12, 13, 14, 15, 16, 17, 18, 19, 20, 21, 22, 23, 24, 25, 26, 27, 28, 29, 30, 31, 32, 33, 34, 35, 36, 37, 38, 39, 40, 41, 42, 43, 44, 45, 46, 47, 48, 49, 50

## HEADER 30
designator JP?
pins: 1, 2, 3, 4, 5, 6, 7, 8, 9, 10, 11, 12, 13, 14, 15, 16, 17, 18, 19, 20, 21, 22, 23, 24, 25, 26, 27, 28, 29, 30

## HEADER 30X2
designator JP?
pins: 1, 2, 3, 4, 5, 6, 7, 8, 9, 10, 11, 12, 13, 14, 15, 16, 17, 18, 19, 20, 21, 22, 23, 24, 25, 26, 27, 28, 29, 30, 31, 32, 33, 34, 35, 36, 37, 38, 39, 40, 41, 42, 43, 44, 45, 46, 47, 48, 49, 50, 51, 52, 53, 54, 55, 56, 57, 58, 59, 60

## HEADER 31
designator JP?
pins: 1, 2, 3, 4, 5, 6, 7, 8, 9, 10, 11, 12, 13, 14, 15, 16, 17, 18, 19, 20, 21, 22, 23, 24, 25, 26, 27, 28, 29, 30, 31

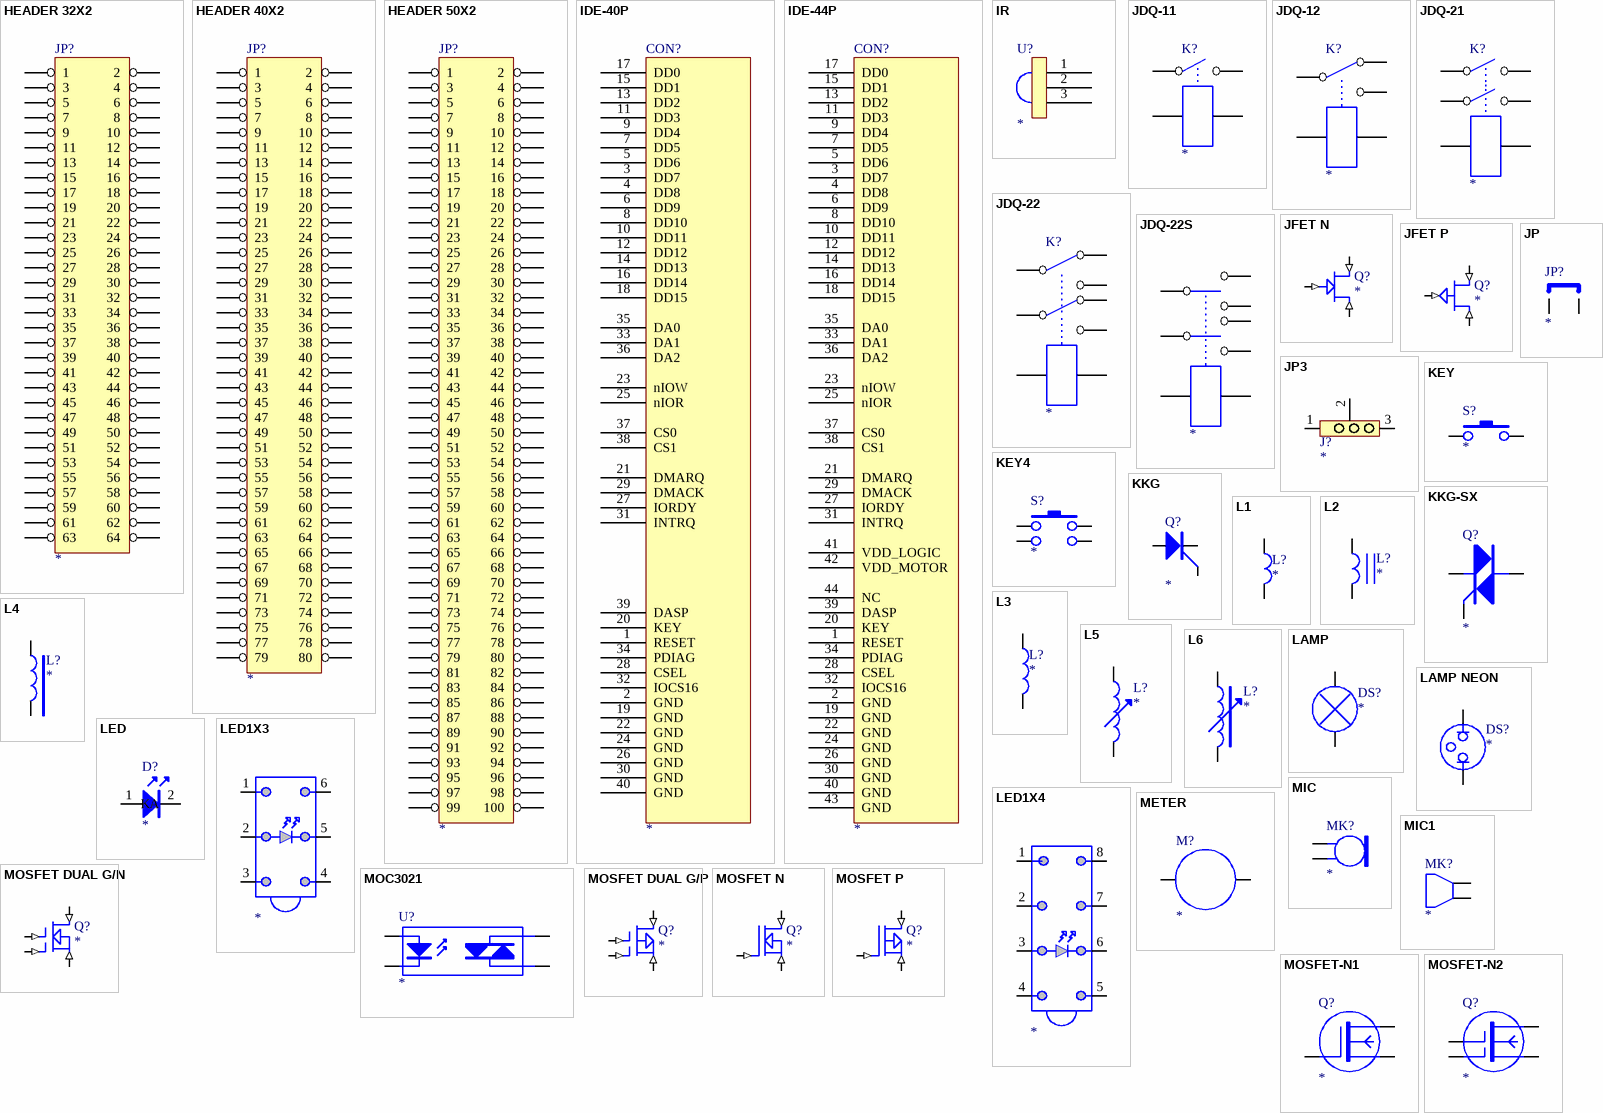
[diagram p5: symbols HEADER 32X2 to MOSFET-N2]

## HEADER 32X2
designator JP?
footprint IDC64
pins: 1, 2, 3, 4, 5, 6, 7, 8, 9, 10, 11, 12, 13, 14, 15, 16, 17, 18, 19, 20, 21, 22, 23, 24, 25, 26, 27, 28, 29, 30, 31, 32, 33, 34, 35, 36, 37, 38, 39, 40, 41, 42, 43, 44, 45, 46, 47, 48, 49, 50, 51, 52, 53, 54, 55, 56, 57, 58, 59, 60, 61, 62, 63, 64

## HEADER 40X2
designator JP?
pins: 1, 2, 3, 4, 5, 6, 7, 8, 9, 10, 11, 12, 13, 14, 15, 16, 17, 18, 19, 20, 21, 22, 23, 24, 25, 26, 27, 28, 29, 30, 31, 32, 33, 34, 35, 36, 37, 38, 39, 40, 41, 42, 43, 44, 45, 46, 47, 48, 49, 50, 51, 52, 53, 54, 55, 56, 57, 58, 59, 60, 61, 62, 63, 64, 65, 66, 67, 68, 69, 70, 71, 72, 73, 74, 75, 76, 77, 78, 79, 80

## HEADER 50X2
designator JP?
pins: 1, 2, 3, 4, 5, 6, 7, 8, 9, 10, 11, 12, 13, 14, 15, 16, 17, 18, 19, 20, 21, 22, 23, 24, 25, 26, 27, 28, 29, 30, 31, 32, 33, 34, 35, 36, 37, 38, 39, 40, 41, 42, 43, 44, 45, 46, 47, 48, 49, 50, 51, 52, 53, 54, 55, 56, 57, 58, 59, 60, 61, 62, 63, 64, 65, 66, 67, 68, 69, 70, 71, 72, 73, 74, 75, 76, 77, 78, 79, 80, 81, 82, 83, 84, 85, 86, 87, 88, 89, 90, 91, 92, 93, 94, 95, 96, 97, 98, 99, 100

## IDE-40P
designator CON?
footprint 44PIN
pins: 1 RESET, 2 GND, 3 DD7, 4 DD8, 5 DD6, 6 DD9, 7 DD5, 8 DD10, 9 DD4, 10 DD11, 11 DD3, 12 DD12, 13 DD2, 14 DD13, 15 DD1, 16 DD14, 17 DD0, 18 DD15, 19 GND, 20 KEY, 21 DMARQ, 22 GND, 23 nIOW, 24 GND, 25 nIOR, 26 GND, 27 IORDY, 28 CSEL, 29 DMACK, 30 GND, 31 INTRQ, 32 IOCS16, 33 DA1, 34 PDIAG, 35 DA0, 36 DA2, 37 CS0, 38 CS1, 39 DASP, 40 GND

## IDE-44P
designator CON?
footprint 44PIN
pins: 1 RESET, 2 GND, 3 DD7, 4 DD8, 5 DD6, 6 DD9, 7 DD5, 8 DD10, 9 DD4, 10 DD11, 11 DD3, 12 DD12, 13 DD2, 14 DD13, 15 DD1, 16 DD14, 17 DD0, 18 DD15, 19 GND, 20 KEY, 21 DMARQ, 22 GND, 23 nIOW, 24 GND, 25 nIOR, 26 GND, 27 IORDY, 28 CSEL, 29 DMACK, 30 GND, 31 INTRQ, 32 IOCS16, 33 DA1, 34 PDIAG, 35 DA0, 36 DA2, 37 CS0, 38 CS1, 39 DASP, 40 GND, 41 VDD_LOGIC, 42 VDD_MOTOR, 43 GND, 44 NC

## IR
designator U?
IR RECEIVER
footprint IR-P
footprint IR-T
pins: 1 GND, 2 VCC, 3 IR-O

## JDQ-11
designator K?
pins: 1, 2, 3, 4

## JDQ-12
designator K?
pins: 1, 2, 3, 4, 5

## JDQ-21
designator K?
pins: 1, 2, 3, 4, 5, 6

## JDQ-22
designator K?
pins: 1, 2, 3, 4, 5, 6, 7, 8

## JDQ-22S
designator ?
pins: 1, 2, 3, 4, 5, 6, 7, 8

## JFET N
designator Q?
pins: 1 G (in), 2 D (in), 3 S (in)

## JFET P
designator Q?
footprint BG3
pins: 1 G (in), 2 D (in), 3 S (in)

## JP
designator JP?
Jumper
footprint SIP2
pins: 1, 2

## JP3
designator J?
footprint SIP3
pins: 1, 2, 3

## KEY
designator S?
pins: 1, 2

## KEY4
designator S?
footprint S4
pins: 1, 2, 3, 4

## KKG
designator Q?
footprint BG3
footprint BD235
pins: 1 A, 2 K, 3 G

## KKG-SX
designator Q?
footprint BG3
footprint BD235
pins: 1 T, 2 T, 3 G

## L1
designator L?
pins: 1, 2

## L2
designator L?
pins: 1, 2

## L3
designator L?
pins: 1, 2

## L4
designator L?
pins: 1, 2

## L5
designator L?
pins: 1, 2

## L6
designator L?
pins: 1, 2

## LAMP
designator DS?
pins: 1, 2

## LAMP NEON
designator DS?
pins: 1, 2

## LED
designator D?
footprint LED3
footprint LED0805
footprint LED5
pins: 1 A, 2 K

## LED1X3
designator ?
pins: 1 A1, 2 A2, 3 A3, 4 K3, 5 K2, 6 K1

## LED1X4
designator ?
pins: 1, 2, 3, 4, 5, 6, 7, 8

## METER
designator M?
pins: 1, 2

## MIC
designator MK?
Microphone
pins: 1, 2

## MIC1
designator MK?
Microphone
pins: 1, 2

## MOC3021
designator U?
pins: 1 A, 2 K, 4 A/K, 6 A/K

## MOSFET DUAL G/N
designator Q?
pins: 1 G1 (in), 2 G2 (in), 3 D (in), 4 S (in)

## MOSFET DUAL G/P
designator Q?
pins: 1 G1 (in), 2 G2 (in), 3 D (in), 4 S (in)

## MOSFET N
designator Q?
pins: 1 G (in), 2 D (in), 3 S (in)

## MOSFET P
designator Q?
pins: 1 G (in), 2 D (in), 3 S (in)

## MOSFET-N1
designator Q?
pins: 1 G, 2 D, 3 S

## MOSFET-N2
designator Q?
pins: 1 G1, 2 G2, 3 D, 4 S

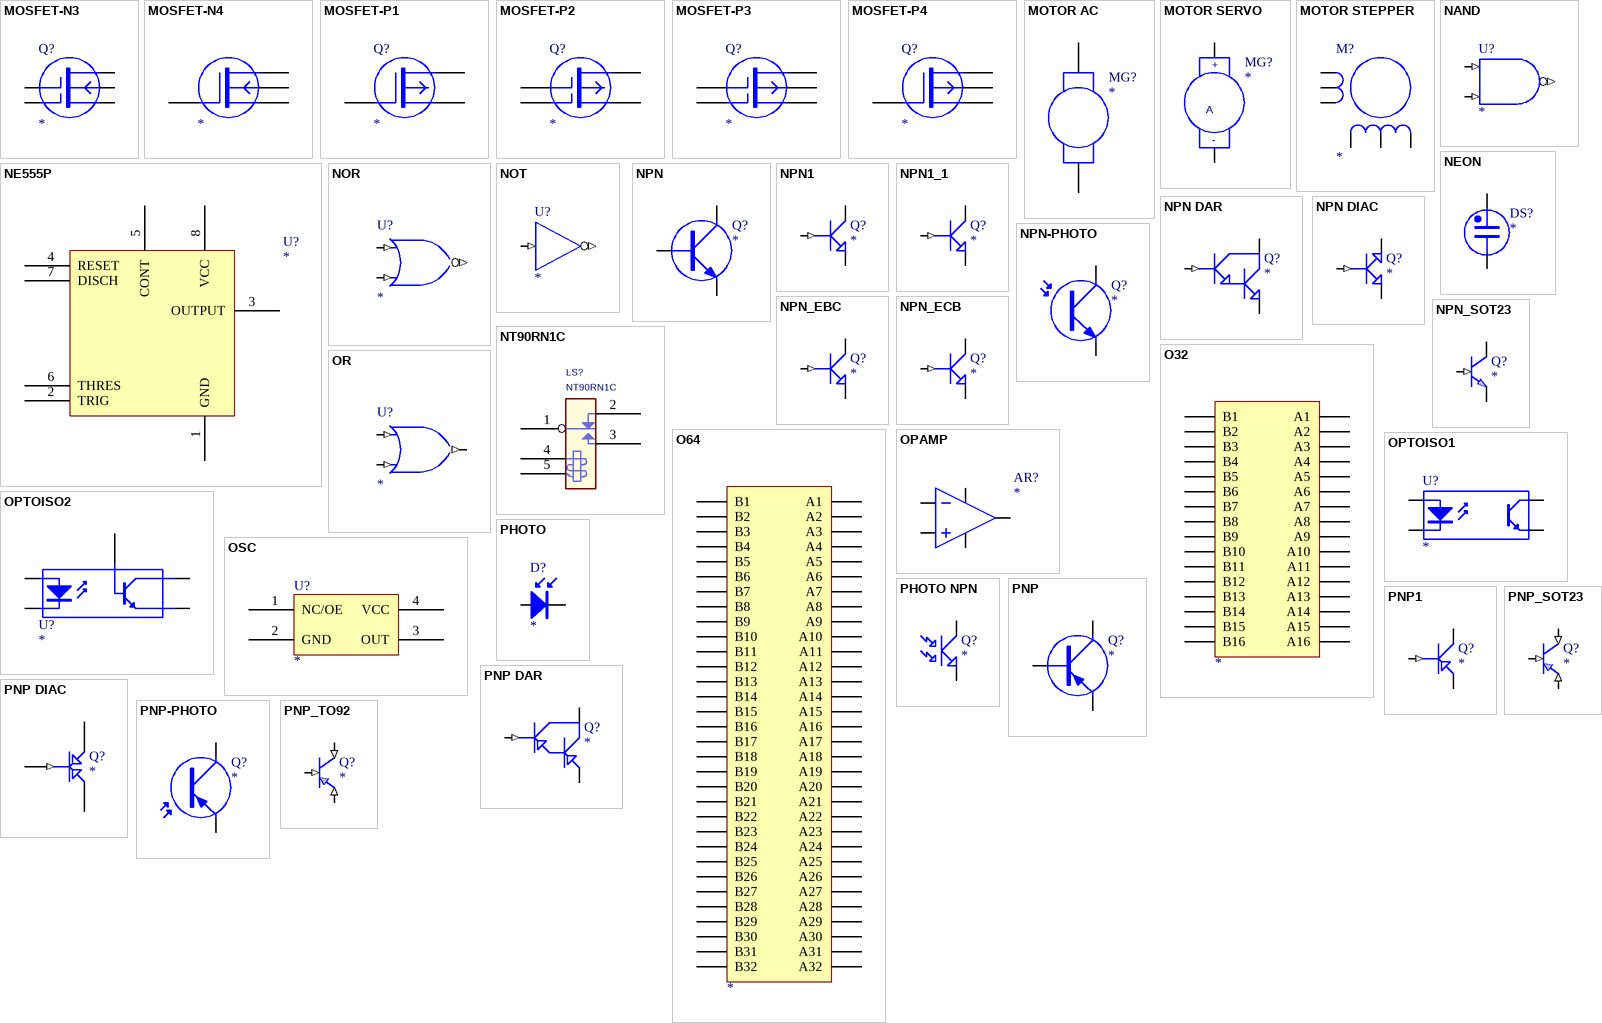
[diagram p6: symbols MOSFET-N3 to PNP_TO92]

## MOSFET-N3
designator Q?
pins: 1 G1, 2 G2, 3 D, 4 U, 5 S

## MOSFET-N4
designator ?
pins: 1 G, 2 D, 3 U, 4 S

## MOSFET-P1
designator Q?
pins: 1 G, 2 D, 3 S

## MOSFET-P2
designator Q?
pins: 1 G1, 2 G2, 3 D, 4 S

## MOSFET-P3
designator Q?
pins: 1 G1, 2 G2, 3 D, 4 U, 5 S

## MOSFET-P4
designator Q?
pins: 1 G, 2 D, 3 U, 4 S

## MOTOR AC
designator MG?
pins: 1, 2

## MOTOR SERVO
designator MG?
pins: 1 +, 2 -
text: A

## MOTOR STEPPER
designator M?
pins: 1, 2, 3, 4, 5, 6

## NAND
designator U?
NAND Gate
pins: 1 A (in), 2 B (in), 3 Y (out)

## NE555P
designator U?
Text Field1: 110; Text Field2: 110
pins: 1 GND, 2 TRIG, 3 OUTPUT, 4 RESET, 5 CONT, 6 THRES, 7 DISCH, 8 VCC

## NEON
designator DS?
pins: 1, 2

## NOR
designator U?
NOR Gate
pins: 1 A (in), 2 B (in), 3 Y (out)

## NOT
designator U?
Inverter
pins: 1 A (in), 2 Y (out)

## NPN
designator Q?
NPN Transistor
footprint BG3
footprint SOT-23
footprint BD235
pins: 1 B, 2 E, 3 C

## NPN1
designator Q?
NPN Transistor
footprint BG3
footprint SOT-23
footprint BD235
pins: 1 E, 2 B (in), 3 C

## NPN1_1
designator Q?
NPN Transistor
footprint BG3
footprint SOT-23
footprint BD235
pins: 1 E, 2 C, 3 B (in)

## NPN DAR
designator Q?
NPN Darlington Transistor
pins: 1 B (in), 2 E, 3 C

## NPN DIAC
designator Q?
pins: 1 B (in), 2 E, 2 C

## NPN-PHOTO
designator Q?
pins: 2 E, 3 C

## NPN_EBC
designator Q?
NPN Transistor
footprint BG3
footprint SOT-23
footprint BD235
pins: 1 E, 2 B (in), 3 C

## NPN_ECB
designator Q?
NPN Transistor
footprint BG3
footprint SOT-23
footprint BD235
pins: 1 E, 2 C, 3 B (in)

## NPN_SOT23
designator Q?
Text Field1: 22; Text Field2: 22
footprint SOT-23
footprint BG3
pins: 1 B (in), 2 E (oe), 3 C (oc)

## NT90RN1C
designator LS?
footprint NT90HCE12CE
pins: 1 COMMON, 2 NC, 3 NO, 4 COIL1, 5 COIL2

## O32
designator ?
pins: A1, A2, A3, A4, A5, A6, A7, A8, A9, A10, A11, A12, A13, A14, A15, A16, B1, B2, B3, B4, B5, B6, B7, B8, B9, B10, B11, B12, B13, B14, B15, B16

## O64
designator ?
pins: A1, A2, A3, A4, A5, A6, A7, A8, A9, A10, A11, A12, A13, A14, A15, A16, A17, A18, A19, A20, A21, A22, A23, A24, A25, A26, A27, A28, A29, A30, A31, A32, B1, B2, B3, B4, B5, B6, B7, B8, B9, B10, B11, B12, B13, B14, B15, B16, B17, B18, B19, B20, B21, B22, B23, B24, B25, B26, B27, B28, B29, B30, B31, B32

## OPAMP
designator AR?
Operational Amplifier
pins: 1 IN-, 2 IN+, 3 OUT, 4 V+, 5 V-

## OPTOISO1
designator U?
pins: 1 A, 2 K, 3 E, 4 C

## OPTOISO2
designator U?
Optoisolator
pins: 1 A, 2 K, 3 B, 4 C, 5 E

## OR
designator U?
OR Gate
pins: 1 A (in), 2 B (in), 3 Y (out)

## OSC
designator U?
OSC
footprint crystal4
pins: 1 NC/OE, 2 GND, 3 OUT, 4 VCC

## PHOTO
designator D?
Photosensitive Diode
footprint LED
pins: 1 A, 2 K

## PHOTO NPN
designator Q?
NPN Phototransistor
pins: 2 E, 3 C

## PNP
designator Q?
PNP Transistor
footprint BG3
footprint SOT-23
footprint BD235
pins: 1 B, 2 E, 3 C

## PNP1
designator Q?
PNP Transistor
footprint BG3
footprint SOT-23
footprint BD235
pins: 1 B (in), 2 E, 3 C

## PNP DAR
designator Q?
PNP Darlington Transistor
footprint BG3
footprint BD235
pins: 1 B (in), 2 E, 3 C

## PNP DIAC
designator Q?
pins: 1 B (in), 2 E, 3 C

## PNP-PHOTO
designator Q?
pins: 2 E, 3 C

## PNP_SOT23
designator Q?
PNP Transistor
footprint SOT-23
footprint BG3
footprint BD235
pins: 1 B (in), 2 E (in), 3 C (in)

## PNP_TO92
designator Q?
PNP Transistor
footprint SOT-23
footprint BG3
footprint BD235
pins: 1 E (in), 2 B (in), 3 C (in)

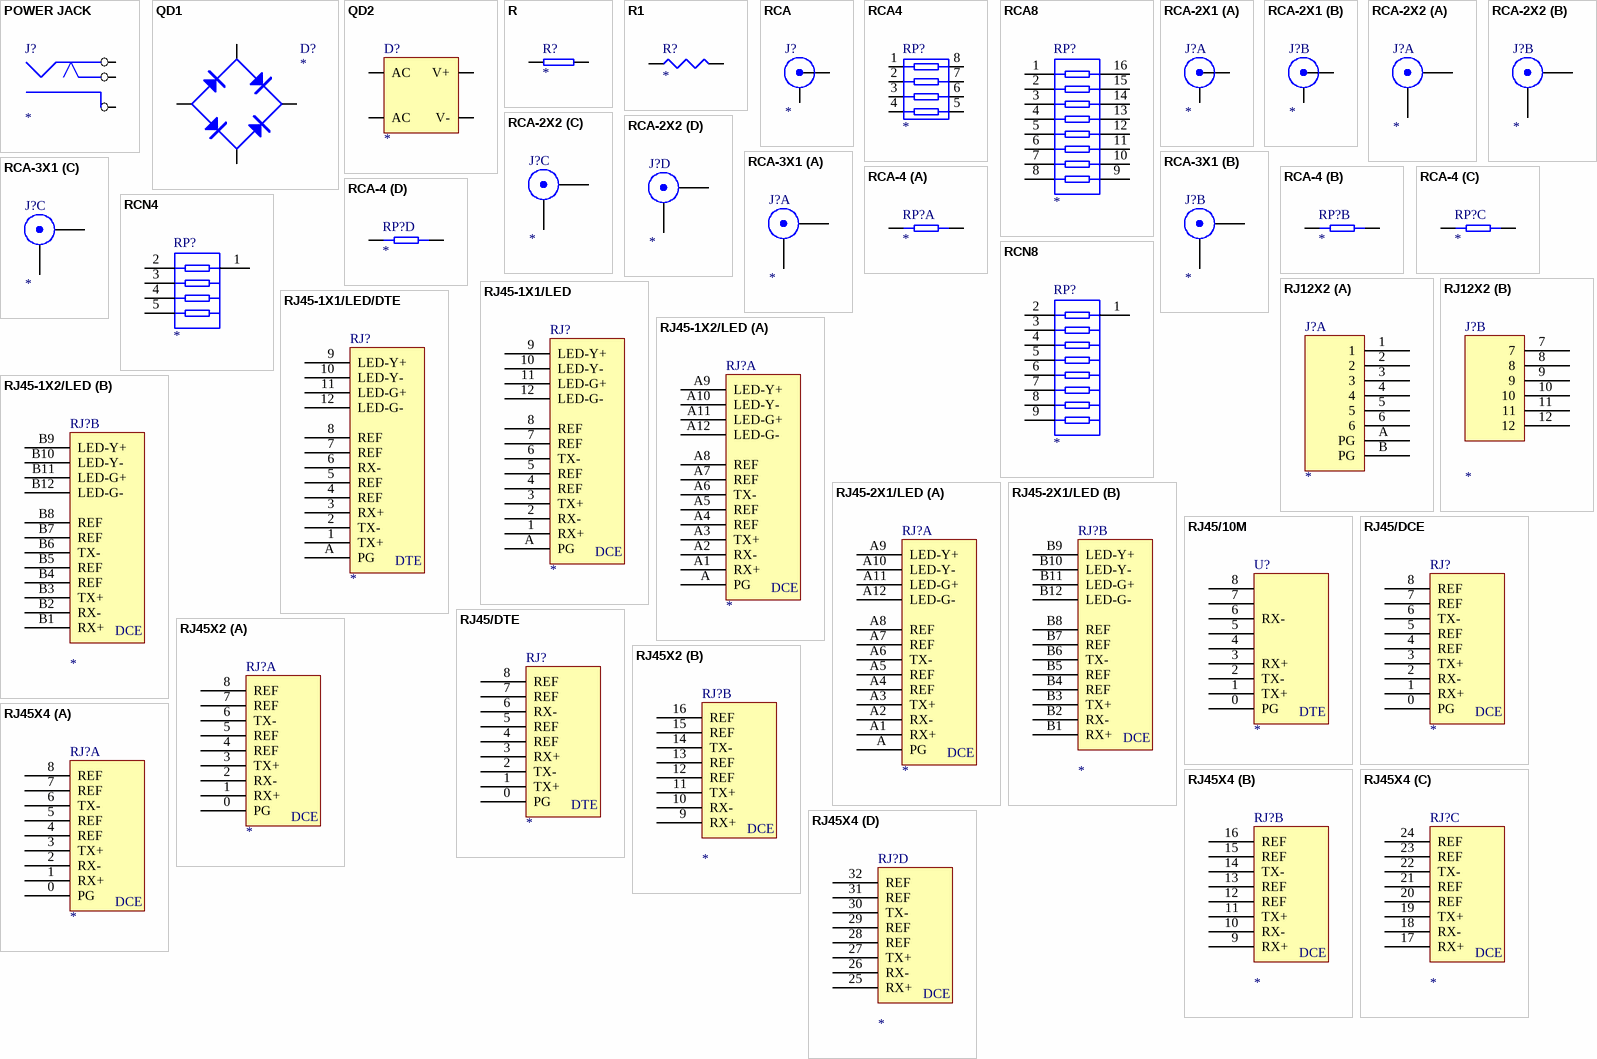
[diagram p7: symbols POWER JACK to RJ45X4]

## POWER JACK
designator J?
footprint POWER JACK
pins: 1, 2 1, 3

## QD1
designator D?
Diode Bridge
footprint QD-3A
footprint QD-5A
footprint QD1
footprint QD2
pins: 1 AC, 2 AC, 3 V+, 4 V-

## QD2
designator D?
Diode Bridge
footprint QD1
footprint QD2
footprint QD3
footprint QD4
pins: 1 AC, 2 AC, 3 V+, 4 V-

## R
designator R?
Resistor; Text Field1: 0402-1/16W-50V; Text Field2: 0603-1/16W-50V; Text Field3: 0805-1/10W-150V; Text Field4: 1206-1/8W-200V; Text Field5: 1210-1/4W-200V; Text Field6: 2010-1/2W-200V--2512-1W-200V; Text Field7: For G 2 %,J 5 % ( E - 24 ) 10 11 12 13 15 16 18 20 22 24 27 30 33 36 39 43 47 51 56 62 68 75 82 91; Text Field8: For F 1 % ( E - 96 ) 100 102 105 107 110 113 115 118 121 124 127 130 133 137 140 143 147 150 154 158 162 165 169 174 178 182 187 191 196 200 205 210 215 221 226 232 237 243 249 255 261 267 174 280 287 294 301 309 316 324 332 340 348 357 365 374 383 392 40
footprint R0603
footprint R0805
footprint R3
footprint R4
pins: 1, 2

## R1
designator R?
footprint R3
footprint R2
footprint R4
footprint R5
pins: 1, 2

## RCA
designator J?
RCA Connector
footprint AV1
footprint AV2
footprint AV3
footprint AV4
pins: 1 X, 2 Y

## RCA4
designator RP?
Text Field1: RCA0603-4_1/16W_25V
footprint RP4
pins: 1, 2, 3, 4, 5, 6, 7, 8

## RCA8
designator RP?
footprint DIP-16
pins: 1, 2, 3, 4, 5, 6, 7, 8, 9, 10, 11, 12, 13, 14, 15, 16

## RCA-2X1
designator J?
footprint RCA-2X1
part A pins: 1 COM, 2 YELLOW
part B pins: 1 COM, 3 BLUE

## RCA-2X2
designator J?
footprint RCA-2X2
part A pins: 1 X, 3 Y
part B pins: 2 X, 3 Y
part C pins: 4 X, 6 Y
part D pins: 5 X, 6 Y

## RCA-3X1
designator J?
footprint RCA-3X1
part A pins: 1 A-COM, 2 A-RED
part B pins: 1 A-COM, 3 A-WRITE
part C pins: 4 V-COM, 5 V-YELLOW

## RCA-4
designator RP?
part A pins: 1, 8
part B pins: 2, 7
part C pins: 3, 6
part D pins: 4, 5

## RCN4
designator RP?
footprint SIP5
pins: 1, 2, 3, 4, 5

## RCN8
designator RP?
Text Field2: RCN0603-8_1/16W_25V
footprint SIP9
footprint RCN0603-8
pins: 1, 2, 3, 4, 5, 6, 7, 8, 9

## RJ12X2
designator J?
Text Field1: 40; Text Field2: 70
part A pins: 1 (power), 2 (power), 3 (power), 4 (power), 5 (power), 6 (power), A PG, B PG
part B pins: 7 (power), 8 (power), 9 (power), 10 (power), 11 (power), 12 (power)

## RJ45-1X1/LED
designator RJ?
RJ45 SOCKET WITH TWO LED
footprint RJ45-1X1/LED
pins: 1 RX+, 2 RX-, 3 TX+, 4 REF, 5 REF, 6 TX-, 7 REF, 8 REF, 9 LED-Y+, 10 LED-Y-, 11 LED-G+, 12 LED-G-, A PG (power)
text: DCE

## RJ45-1X1/LED/DTE
designator RJ?
RJ45 SOCKET WITH TWO LED
footprint RJ45-1X1/LED
pins: 1 TX+, 2 TX-, 3 RX+, 4 REF, 5 REF, 6 RX-, 7 REF, 8 REF, 9 LED-Y+, 10 LED-Y-, 11 LED-G+, 12 LED-G-, A PG (power)
text: DTE

## RJ45-1X2/LED
designator RJ?
RJ45 SOCKET WITH TWO LED
footprint RJ45-1X2/LED
part A pins: A PG (power), A1 RX+, A2 RX-, A3 TX+, A4 REF, A5 REF, A6 TX-, A7 REF, A8 REF, A9 LED-Y+, A10 LED-Y-, A11 LED-G+, A12 LED-G-
part B pins: B1 RX+, B2 RX-, B3 TX+, B4 REF, B5 REF, B6 TX-, B7 REF, B8 REF, B9 LED-Y+, B10 LED-Y-, B11 LED-G+, B12 LED-G-
part A text: DCE
part B text: DCE

## RJ45-2X1/LED
designator RJ?
RJ45 SOCKET WITH TWO LED
footprint RJ45-2x1/LED
part A pins: A PG (power), A1 RX+, A2 RX-, A3 TX+, A4 REF, A5 REF, A6 TX-, A7 REF, A8 REF, A9 LED-Y+, A10 LED-Y-, A11 LED-G+, A12 LED-G-
part B pins: B1 RX+, B2 RX-, B3 TX+, B4 REF, B5 REF, B6 TX-, B7 REF, B8 REF, B9 LED-Y+, B10 LED-Y-, B11 LED-G+, B12 LED-G-
part A text: DCE
part B text: DCE

## RJ45/10M
designator U?
pins: 0 PG (power), 1 TX+, 2 TX-, 3 RX+, 4, 5, 6 RX-, 7, 8
text: DTE

## RJ45/DCE
designator RJ?
RJ45
footprint RJ45
pins: 0 PG (power), 1 RX+, 2 RX-, 3 TX+, 4 REF, 5 REF, 6 TX-, 7 REF, 8 REF
text: DCE

## RJ45/DTE
designator RJ?
RJ45
footprint RJ45
footprint RJ45-L
pins: 0 PG (power), 1 TX+, 2 TX-, 3 RX+, 4 REF, 5 REF, 6 RX-, 7 REF, 8 REF
text: DTE

## RJ45X2
designator RJ?
footprint rj45-l2
part A pins: 0 PG (power), 1 RX+, 2 RX-, 3 TX+, 4 REF, 5 REF, 6 TX-, 7 REF, 8 REF
part B pins: 9 RX+, 10 RX-, 11 TX+, 12 REF, 13 REF, 14 TX-, 15 REF, 16 REF
part A text: DCE
part B text: DCE

## RJ45X4
designator RJ?
footprint RJ45X4
part A pins: 0 PG (power), 1 RX+, 2 RX-, 3 TX+, 4 REF, 5 REF, 6 TX-, 7 REF, 8 REF
part B pins: 9 RX+, 10 RX-, 11 TX+, 12 REF, 13 REF, 14 TX-, 15 REF, 16 REF
part C pins: 17 RX+, 18 RX-, 19 TX+, 20 REF, 21 REF, 22 TX-, 23 REF, 24 REF
part D pins: 25 RX+, 26 RX-, 27 TX+, 28 REF, 29 REF, 30 TX-, 31 REF, 32 REF
part A text: DCE
part B text: DCE
part C text: DCE
part D text: DCE

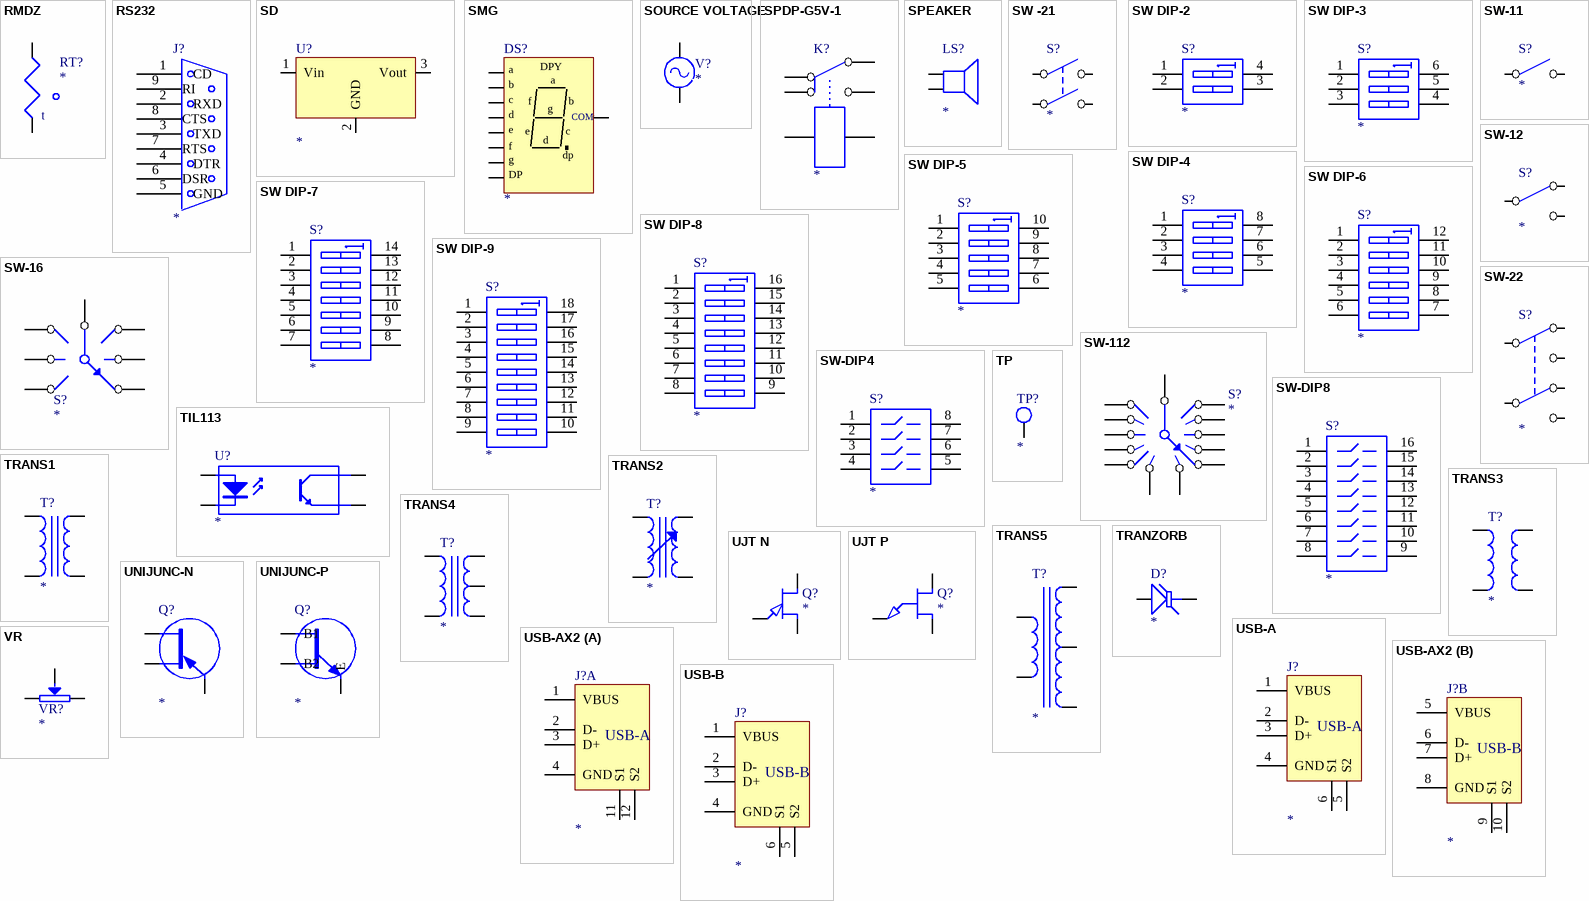
[diagram p8: symbols RMDZ to VR]

## RMDZ
designator RT?
pins: 1, 2
text: t

## RS232
designator J?
Direction is DTE (Computer) relative DCE (Modem). (At the Computer)
footprint DB9P/M
footprint DB9
pins: 1  CD, 2  RXD, 3  TXD, 4  DTR, 5  GND, 6 DSR, 7 RTS, 8 CTS, 9 RI

## SD
designator U?
footprint PWR
footprint RWRA
footprint TO220H
pins: 1 Vin, 2 GND, 3 Vout

## SMG
designator DS?
Seven-Segment Display, Right Hand Decimal
pins: 1 a, 2 b, 3 c, 4 d, 5 e, 6 f, 7 g, 8, 9
text: DPY; COM; dp; DP

## SOURCE VOLTAGE
designator V?
pins: 1, 2

## SPDP-G5V-1
designator K?
footprint JDQ/G5V-1
pins: 1, 2, 5, 6, 9, 10

## SPEAKER
designator LS?
pins: 1, 2

## SW -21
designator S?
pins: 1 COMMON1, 2 NO1, 3 COMMON2, 4 NO2

## SW DIP-2
designator S?
DIP Switch
pins: 1 A1, 2 A2, 3 B2, 4 B1

## SW DIP-3
designator S?
DIP Switch
pins: 1 A1, 2 A2, 3 A3, 4 B3, 5 B2, 6 B1

## SW DIP-4
designator S?
DIP Switch
pins: 1 A1, 2 A2, 3 A3, 4 A4, 5 B4, 6 B3, 7 B2, 8 B1

## SW DIP-5
designator S?
DIP Switch
pins: 1 A1, 2 A2, 3 A3, 4 A4, 5 A5, 6 B5, 7 B4, 8 B3, 9 B2, 10 B1

## SW DIP-6
designator S?
DIP Switch
pins: 1 A1, 2 A2, 3 A3, 4 A4, 5 A5, 6 A6, 7 B6, 8 B5, 9 B4, 10 B3, 11 B2, 12 B1

## SW DIP-7
designator S?
DIP Switch
pins: 1 A1, 2 A2, 3 A3, 4 A4, 5 A5, 6 A6, 7 A7, 8 B7, 9 B6, 10 B5, 11 B4, 12 B3, 13 B2, 14 B1

## SW DIP-8
designator S?
DIP Switch
pins: 1 A1, 2 A2, 3 A3, 4 A4, 5 A5, 6 A6, 7 A7, 8 A8, 9 B8, 10 B7, 11 B6, 12 B5, 13 B4, 14 B3, 15 B2, 16 B1

## SW DIP-9
designator S?
DIP Switch
pins: 1 A1, 2 A2, 3 A3, 4 A4, 5 A5, 6 A6, 7 A7, 8 A8, 9 A9, 10 B9, 11 B8, 12 B7, 13 B6, 14 B5, 15 B4, 16 B3, 17 B2, 18 B1

## SW-11
designator S?
pins: 1 COMMON, 2 NO

## SW-12
designator S?
pins: 1 NC, 2 COMMON, 3 NO

## SW-16
designator S?
pins: 1, 2, 3, 4, 5, 6, 7

## SW-22
designator S?
pins: 1 NC1, 2 COMMON1, 3 NO1, 4 NC2, 5 COMMON2, 6 NO2

## SW-112
designator S?
pins: 1, 2, 3, 4, 5, 6, 7, 8, 9, 10, 11, 12, 13

## SW-DIP4
designator S?
footprint DIP-8
pins: 1, 2, 3, 4, 5, 6, 7, 8

## SW-DIP8
designator S?
footprint DIP-16
pins: 1, 2, 3, 4, 5, 6, 7, 8, 9, 10, 11, 12, 13, 14, 15, 16

## TIL113
designator U?
Optoisolator
pins: 1 A, 2 K, 4 E, 5 C

## TP
designator TP?
TEST POINT
footprint TP
footprint SIP1
pins: 1

## TRANS1
designator T?
pins: 1, 2, 3, 4

## TRANS2
designator T?
pins: 1, 2, 3, 4

## TRANS3
designator T?
pins: 1, 2, 3, 4

## TRANS4
designator T?
pins: 1, 2, 3, 4, 5

## TRANS5
designator T?
pins: 1, 2, 3, 4, 5

## TRANZORB
designator D?
pins: 1 A, 2 K

## UJT N
designator Q?
pins: 1 E, 2 B2, 3 B1

## UJT P
designator Q?
pins: 1 E, 2 B1, 3 B2

## UNIJUNC-N
designator Q?
pins: 1 B1, 2 B2, 3 E

## UNIJUNC-P
designator Q?
pins: 1 B1, 2 B2, 3 E

## USB-A
designator J?
footprint USB-A
pins: 1 VBUS, 2 D-, 3 D+, 4 GND, 5 S2, 6 S1

## USB-AX2
designator J?
footprint USB-AX2
part A pins: 1 VBUS, 2 D-, 3 D+, 4 GND, 11 S1, 12 S2
part B pins: 5 VBUS, 6 D-, 7 D+, 8 GND, 9 S1, 10 S2
part A text: USB-A
part B text: USB-B

## USB-B
designator J?
footprint USB-B
pins: 1 VBUS, 2 D-, 3 D+, 4 GND, 5 S2, 6 S1

## VR
designator VR?
Potentiometer
footprint VR
footprint VR1
pins: 1, 2 W, 3

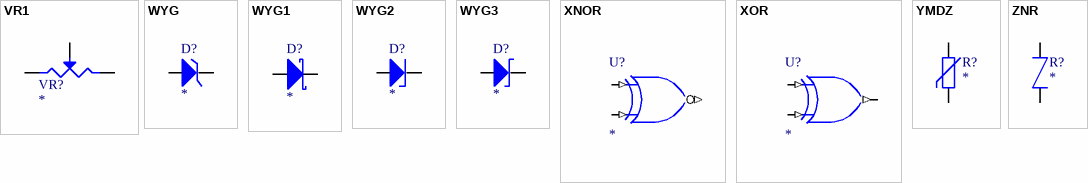
[diagram p9: symbols VR1 to ZNR]

## VR1
designator VR?
Potentiometer
footprint VR
footprint VR1
footprint VR2
footprint VR3
pins: 1, 2 W, 3

## WYG
designator D?
Zener Diode
footprint V3
pins: 1 A, 2 K

## WYG1
designator D?
Schottky Diode
footprint V3
pins: 1 A, 2 K

## WYG2
designator D?
Zener Diode
footprint V3
pins: 1 A, 2 K

## WYG3
designator D?
Zener Diode
pins: 1 A, 2 K

## XNOR
designator U?
XNOR Gate
pins: 1 A (in), 2 B (in), 3 Y (out)

## XOR
designator U?
XOR Gate
pins: 1 A (in), 2 B (in), 3 Y (out)

## YMDZ
designator R?
pins: 1, 2

## ZNR
designator R?
ZNR
pins: 1, 2